# Altium schematic symbol library Actel IGLOO nano.SchLib: 240 symbols (part 3 of 14)
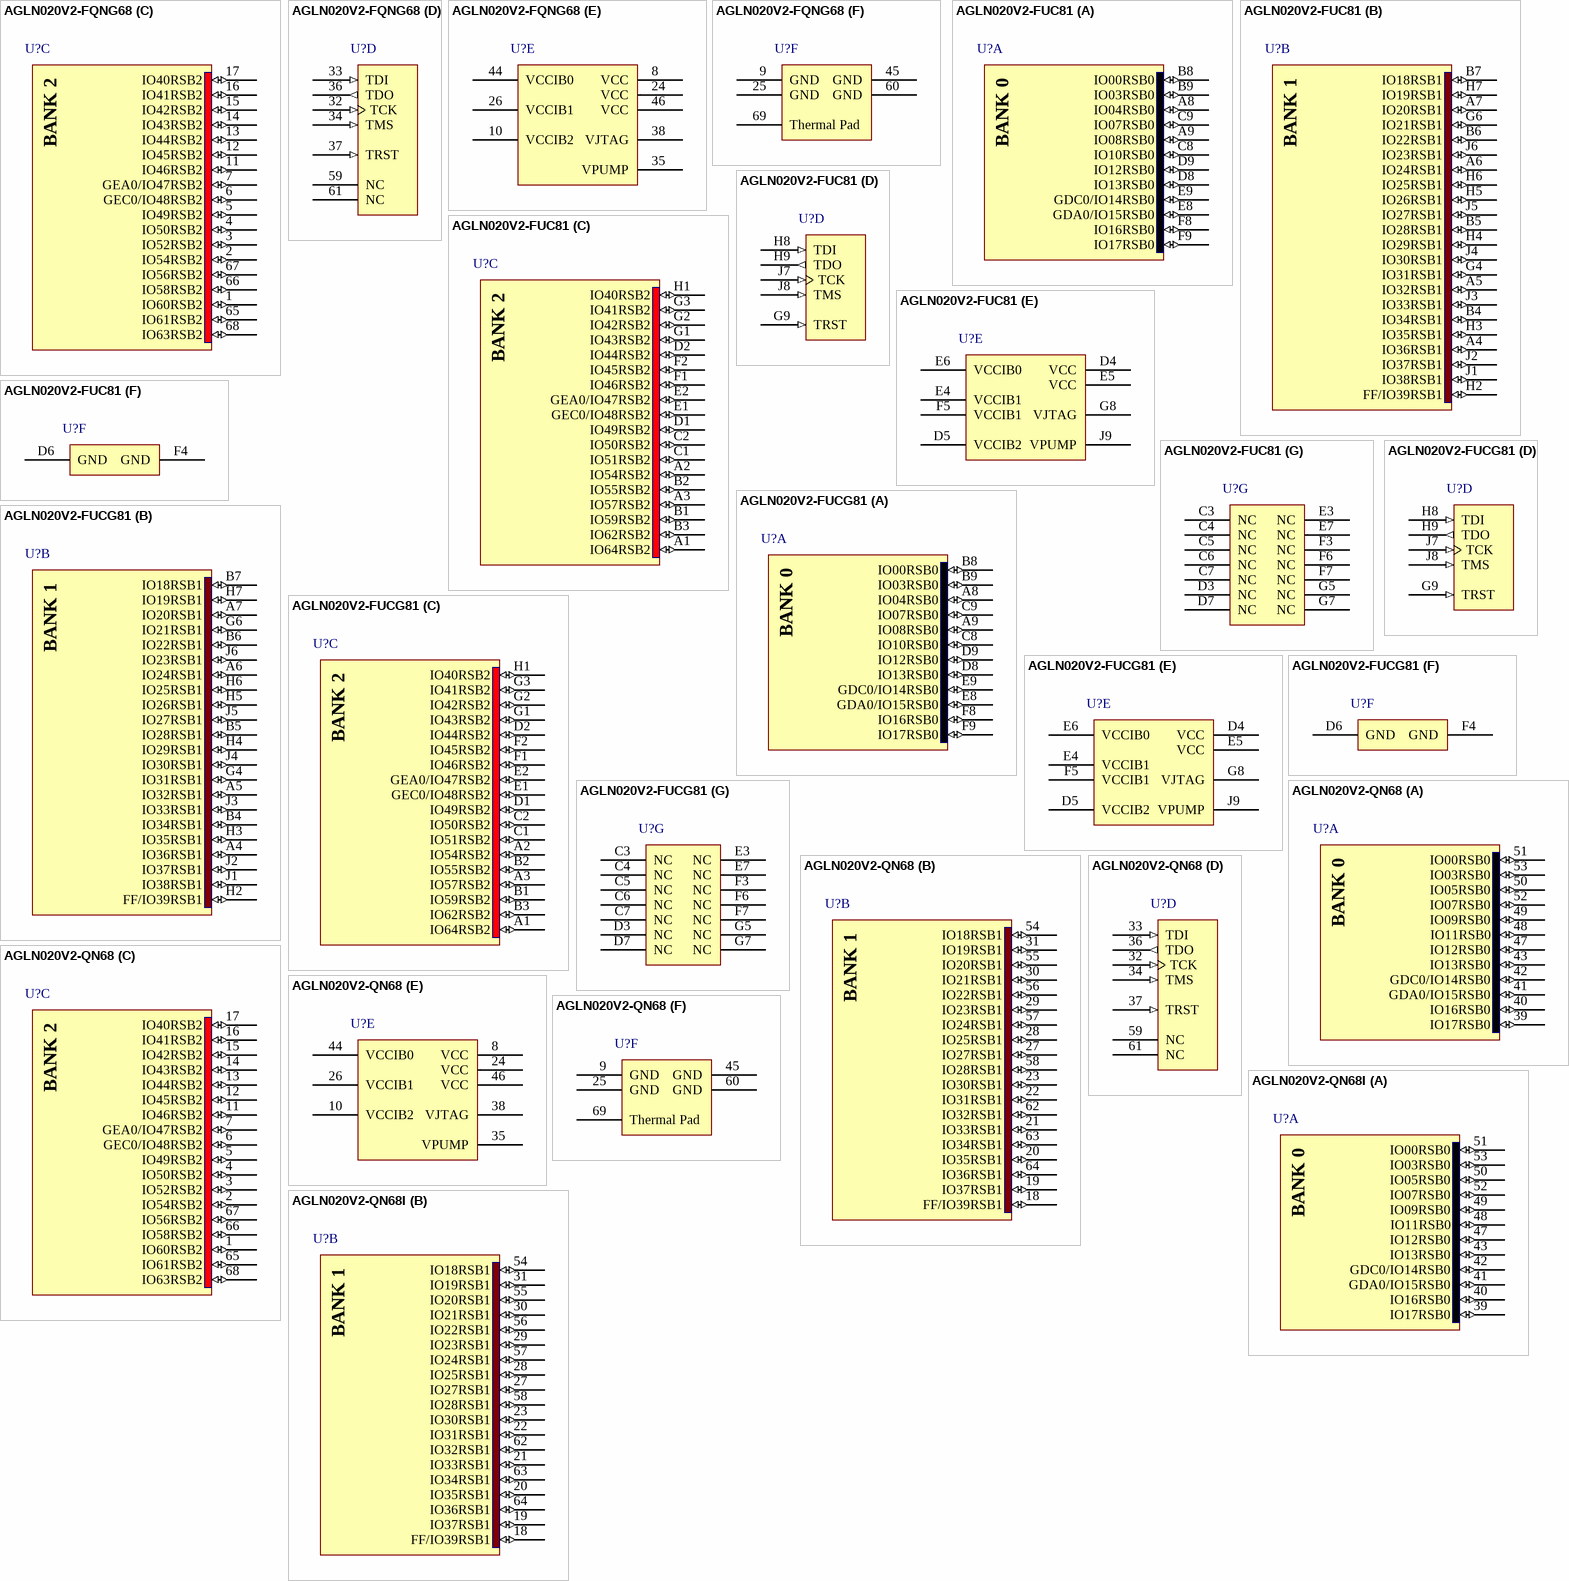
[diagram p65: symbols AGLN020V2-FQNG68 to AGLN020V2-QN68I]

## AGLN020V2-FUC81
designator U?
IGLOO nano Low-Power Flash 1.2 to 1.5V FPGA with Flash*Freeze, 52 User IOs, 20K System Gates, 1Kbit Flash ROM, 81-Pin Micro CSP, F Speed Grade, Commercial Grade; ComponentAvailability: F speed grade removed in ver0.7, Apr-2009 datasheet.; Published: 29-May-2009; DatasheetVersion: v0.6, Feb-2009; PackageVersion: ver11.2, Nov-2009; PackageReference: uC81; Publisher: Altium Limited; PackageDescription: 81-Ball Chip Scale Ball Grid Array 0.4 mm Pitch (uC81); Code_JEDEC: MO-195-AB; ComponentLink1Description: IGLOO nano Datasheet; ComponentLink1URL: http://www.actel.com/documents/IGLOO_nano_DS.pdf; ComponentLink2Description: Package Mechanical Drawings; ComponentLink2URL: http://www.actel.com/documents/PckgMechDrwngs.pdf; ComponentLink3Description: IGLOO nano Documents; ComponentLink3URL: http://www.actel.com/products/igloonano/docs.aspx; ComponentLink4Description: Actel.com Home; ComponentLink4URL: http://www.actel.com/
footprint UC81 (BGA, 81-Leads, Body 4x4mm, Pitch 0.4mm)
signal-integrity model AGLN020-UC81 (IGLOO nano)
part A pins: A8 IO04RSB0 (io), A9 IO08RSB0 (io), B8 IO00RSB0 (io), B9 IO03RSB0 (io), C8 IO10RSB0 (io), C9 IO07RSB0 (io), D8 IO13RSB0 (io), D9 IO12RSB0 (io), E8 GDA0/IO15RSB0 (io), E9 GDC0/IO14RSB0 (io), F8 IO16RSB0 (io), F9 IO17RSB0 (io)
part B pins: A4 IO36RSB1 (io), A5 IO32RSB1 (io), A6 IO24RSB1 (io), A7 IO20RSB1 (io), B4 IO34RSB1 (io), B5 IO28RSB1 (io), B6 IO22RSB1 (io), B7 IO18RSB1 (io), G4 IO31RSB1 (io), G6 IO21RSB1 (io), H2 FF/IO39RSB1 (io), H3 IO35RSB1 (io), H4 IO29RSB1 (io), H5 IO26RSB1 (io), H6 IO25RSB1 (io), H7 IO19RSB1 (io), J1 IO38RSB1 (io), J2 IO37RSB1 (io), J3 IO33RSB1 (io), J4 IO30RSB1 (io), J5 IO27RSB1 (io), J6 IO23RSB1 (io)
part C pins: A1 IO64RSB2 (io), A2 IO54RSB2 (io), A3 IO57RSB2 (io), B1 IO59RSB2 (io), B2 IO55RSB2 (io), B3 IO62RSB2 (io), C1 IO51RSB2 (io), C2 IO50RSB2 (io), D1 IO49RSB2 (io), D2 IO44RSB2 (io), E1 GEC0/IO48RSB2 (io), E2 GEA0/IO47RSB2 (io), F1 IO46RSB2 (io), F2 IO45RSB2 (io), G1 IO43RSB2 (io), G2 IO42RSB2 (io), G3 IO41RSB2 (io), H1 IO40RSB2 (io)
part D pins: G9 TRST (in), H8 TDI (in), H9 TDO (out), J7 TCK (in), J8 TMS (in)
part E pins: D4 VCC (power), D5 VCCIB2 (power), E4 VCCIB1 (power), E5 VCC (power), E6 VCCIB0 (power), F5 VCCIB1 (power), G8 VJTAG (power), J9 VPUMP (power)
part F pins: D6 GND (power), F4 GND (power)
part G pins: C3 NC, C4 NC, C5 NC, C6 NC, C7 NC, D3 NC, D7 NC, E3 NC, E7 NC, F3 NC, F6 NC, F7 NC, G5 NC, G7 NC
part A text: BANK 0
part B text: BANK 1
part C text: BANK 2

## AGLN020V2-FUCG81
designator U?
IGLOO nano Low-Power Flash 1.2 to 1.5V FPGA with Flash*Freeze, 52 User IOs, 20K System Gates, 1Kbit Flash ROM, 81-Pin Micro CSP, F Speed Grade, Commercial Grade, Pb-Free; ComponentAvailability: F speed grade removed in ver0.7, Apr-2009 datasheet.; Published: 29-May-2009; DatasheetVersion: v0.6, Feb-2009; PackageVersion: ver11.2, Nov-2009; PackageReference: uC81; Publisher: Altium Limited; PackageDescription: 81-Ball Chip Scale Ball Grid Array 0.4 mm Pitch (uC81); Code_JEDEC: MO-195-AB; ComponentLink1Description: IGLOO nano Datasheet; ComponentLink1URL: http://www.actel.com/documents/IGLOO_nano_DS.pdf; ComponentLink2Description: Package Mechanical Drawings; ComponentLink2URL: http://www.actel.com/documents/PckgMechDrwngs.pdf; ComponentLink3Description: IGLOO nano Documents; ComponentLink3URL: http://www.actel.com/products/igloonano/docs.aspx; ComponentLink4Description: Actel.com Home; ComponentLink4URL: http://www.actel.com/
footprint UC81 (BGA, 81-Leads, Body 4x4mm, Pitch 0.4mm)
signal-integrity model AGLN020-UC81 (IGLOO nano)
part A pins: A8 IO04RSB0 (io), A9 IO08RSB0 (io), B8 IO00RSB0 (io), B9 IO03RSB0 (io), C8 IO10RSB0 (io), C9 IO07RSB0 (io), D8 IO13RSB0 (io), D9 IO12RSB0 (io), E8 GDA0/IO15RSB0 (io), E9 GDC0/IO14RSB0 (io), F8 IO16RSB0 (io), F9 IO17RSB0 (io)
part B pins: A4 IO36RSB1 (io), A5 IO32RSB1 (io), A6 IO24RSB1 (io), A7 IO20RSB1 (io), B4 IO34RSB1 (io), B5 IO28RSB1 (io), B6 IO22RSB1 (io), B7 IO18RSB1 (io), G4 IO31RSB1 (io), G6 IO21RSB1 (io), H2 FF/IO39RSB1 (io), H3 IO35RSB1 (io), H4 IO29RSB1 (io), H5 IO26RSB1 (io), H6 IO25RSB1 (io), H7 IO19RSB1 (io), J1 IO38RSB1 (io), J2 IO37RSB1 (io), J3 IO33RSB1 (io), J4 IO30RSB1 (io), J5 IO27RSB1 (io), J6 IO23RSB1 (io)
part C pins: A1 IO64RSB2 (io), A2 IO54RSB2 (io), A3 IO57RSB2 (io), B1 IO59RSB2 (io), B2 IO55RSB2 (io), B3 IO62RSB2 (io), C1 IO51RSB2 (io), C2 IO50RSB2 (io), D1 IO49RSB2 (io), D2 IO44RSB2 (io), E1 GEC0/IO48RSB2 (io), E2 GEA0/IO47RSB2 (io), F1 IO46RSB2 (io), F2 IO45RSB2 (io), G1 IO43RSB2 (io), G2 IO42RSB2 (io), G3 IO41RSB2 (io), H1 IO40RSB2 (io)
part D pins: G9 TRST (in), H8 TDI (in), H9 TDO (out), J7 TCK (in), J8 TMS (in)
part E pins: D4 VCC (power), D5 VCCIB2 (power), E4 VCCIB1 (power), E5 VCC (power), E6 VCCIB0 (power), F5 VCCIB1 (power), G8 VJTAG (power), J9 VPUMP (power)
part F pins: D6 GND (power), F4 GND (power)
part G pins: C3 NC, C4 NC, C5 NC, C6 NC, C7 NC, D3 NC, D7 NC, E3 NC, E7 NC, F3 NC, F6 NC, F7 NC, G5 NC, G7 NC
part A text: BANK 0
part B text: BANK 1
part C text: BANK 2

## AGLN020V2-QN68
designator U?
IGLOO nano Low-Power Flash 1.2 to 1.5V FPGA with Flash*Freeze, 49 User IOs, 20K System Gates, 1Kbit Flash ROM, 68-Pin QFN, Commercial Grade; Published: 29-May-2009; LatestRevisionDate: 26-Feb-2010; LatestRevisionNote: Updated to datasheet version 0.8 Jan-2010.; DatasheetVersion: v0.8, Jan-2010; PackageVersion: ver11.2, Nov-2009; PackageReference: QN68; Publisher: Altium Limited; PackageDescription: 68-Pin Quad Flat No-Lead 0.4 mm Pitch (QN68); Code_JEDEC: MO-220-VLLE-1; ComponentLink1Description: IGLOO nano Datasheet; ComponentLink1URL: http://www.actel.com/documents/IGLOO_nano_DS.pdf; ComponentLink2Description: Package Mechanical Drawings; ComponentLink2URL: http://www.actel.com/documents/PckgMechDrwngs.pdf; ComponentLink3Description: IGLOO nano Documents; ComponentLink3URL: http://www.actel.com/products/igloonano/docs.aspx; ComponentLink4Description: Actel.com Home; ComponentLink4URL: http://www.actel.com/
footprint QN68_N (QFN, 68-Leads, Body 8x8 mm, Pitch 0.4mm, IPC Medium Density)
footprint QN68_L (QFN, 68-Leads, Body 8x8 mm, Pitch 0.4mm, IPC High Density)
footprint QN68_M (QFN, 68-Leads, Body 8x8 mm, Pitch 0.4mm, IPC Low Density)
signal-integrity model AGLN020-QN68 (IGLOO nano)
part A pins: 39 IO17RSB0 (io), 40 IO16RSB0 (io), 41 GDA0/IO15RSB0 (io), 42 GDC0/IO14RSB0 (io), 43 IO13RSB0 (io), 47 IO12RSB0 (io), 48 IO11RSB0 (io), 49 IO09RSB0 (io), 50 IO05RSB0 (io), 51 IO00RSB0 (io), 52 IO07RSB0 (io), 53 IO03RSB0 (io)
part B pins: 18 FF/IO39RSB1 (io), 19 IO37RSB1 (io), 20 IO35RSB1 (io), 21 IO33RSB1 (io), 22 IO31RSB1 (io), 23 IO30RSB1 (io), 27 IO27RSB1 (io), 28 IO25RSB1 (io), 29 IO23RSB1 (io), 30 IO21RSB1 (io), 31 IO19RSB1 (io), 54 IO18RSB1 (io), 55 IO20RSB1 (io), 56 IO22RSB1 (io), 57 IO24RSB1 (io), 58 IO28RSB1 (io), 62 IO32RSB1 (io), 63 IO34RSB1 (io), 64 IO36RSB1 (io)
part C pins: 1 IO60RSB2 (io), 2 IO54RSB2 (io), 3 IO52RSB2 (io), 4 IO50RSB2 (io), 5 IO49RSB2 (io), 6 GEC0/IO48RSB2 (io), 7 GEA0/IO47RSB2 (io), 11 IO46RSB2 (io), 12 IO45RSB2 (io), 13 IO44RSB2 (io), 14 IO43RSB2 (io), 15 IO42RSB2 (io), 16 IO41RSB2 (io), 17 IO40RSB2 (io), 65 IO61RSB2 (io), 66 IO58RSB2 (io), 67 IO56RSB2 (io), 68 IO63RSB2 (io)
part D pins: 32 TCK (in), 33 TDI (in), 34 TMS (in), 36 TDO (out), 37 TRST (in), 59 NC, 61 NC
part E pins: 8 VCC (power), 10 VCCIB2 (power), 24 VCC (power), 26 VCCIB1 (power), 35 VPUMP (power), 38 VJTAG (power), 44 VCCIB0 (power), 46 VCC (power)
part F pins: 9 GND (power), 25 GND (power), 45 GND (power), 60 GND (power), 69 Thermal Pad
part A text: BANK 0
part B text: BANK 1
part C text: BANK 2

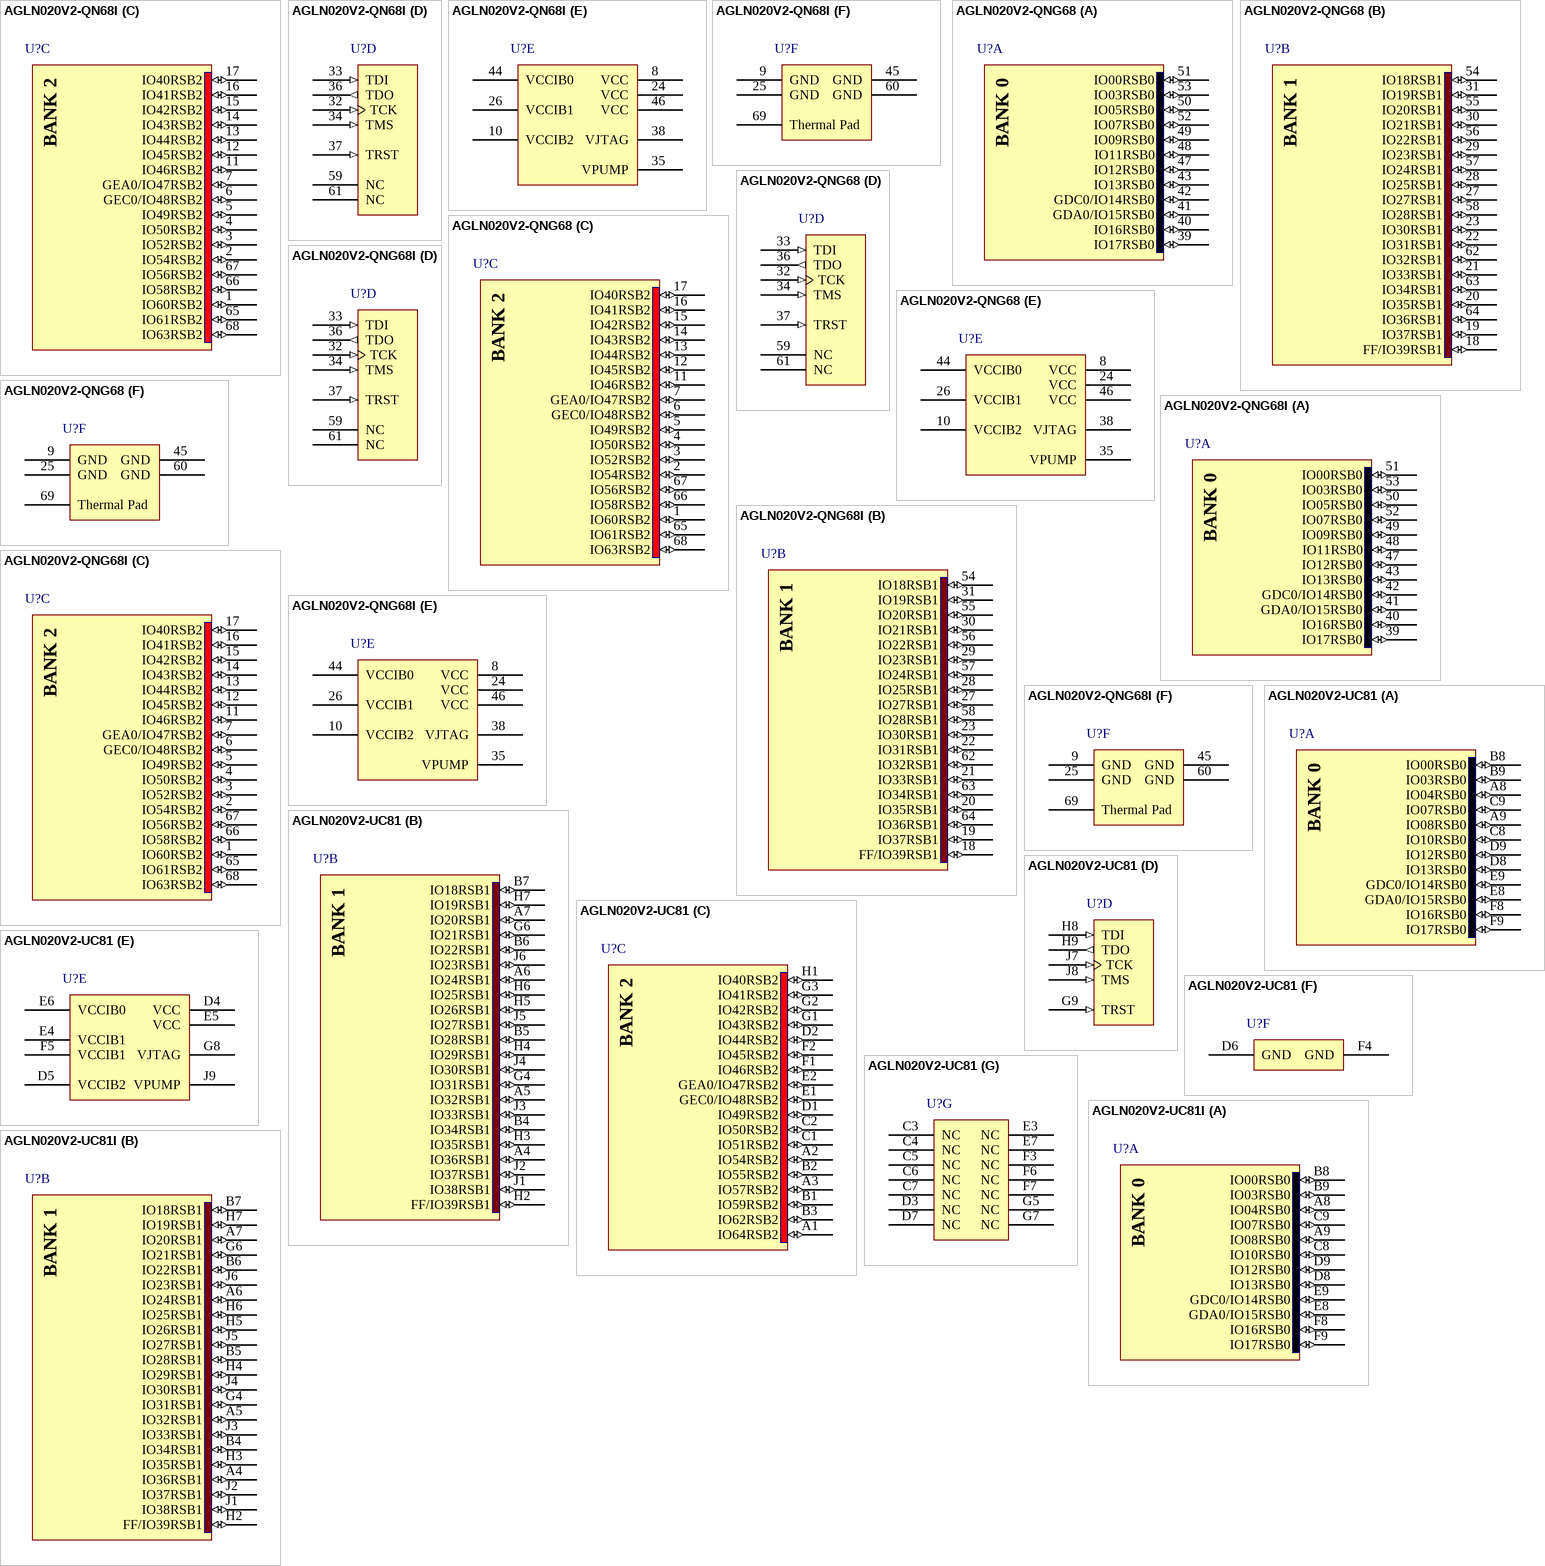
[diagram p9: symbols AGLN020V2-QN68I to AGLN020V2-UC81I]

## AGLN020V2-QN68I
designator U?
IGLOO nano Low-Power Flash 1.2 to 1.5V FPGA with Flash*Freeze, 49 User IOs, 20K System Gates, 1Kbit Flash ROM, 68-Pin QFN, Industrial Grade; Published: 29-May-2009; LatestRevisionDate: 26-Feb-2010; LatestRevisionNote: Updated to datasheet version 0.8 Jan-2010.; DatasheetVersion: v0.8, Jan-2010; PackageVersion: ver11.2, Nov-2009; PackageReference: QN68; Publisher: Altium Limited; PackageDescription: 68-Pin Quad Flat No-Lead 0.4 mm Pitch (QN68); Code_JEDEC: MO-220-VLLE-1; ComponentLink1Description: IGLOO nano Datasheet; ComponentLink1URL: http://www.actel.com/documents/IGLOO_nano_DS.pdf; ComponentLink2Description: Package Mechanical Drawings; ComponentLink2URL: http://www.actel.com/documents/PckgMechDrwngs.pdf; ComponentLink3Description: IGLOO nano Documents; ComponentLink3URL: http://www.actel.com/products/igloonano/docs.aspx; ComponentLink4Description: Actel.com Home; ComponentLink4URL: http://www.actel.com/
footprint QN68_N (QFN, 68-Leads, Body 8x8 mm, Pitch 0.4mm, IPC Medium Density)
footprint QN68_L (QFN, 68-Leads, Body 8x8 mm, Pitch 0.4mm, IPC High Density)
footprint QN68_M (QFN, 68-Leads, Body 8x8 mm, Pitch 0.4mm, IPC Low Density)
signal-integrity model AGLN020-QN68 (IGLOO nano)
part A pins: 39 IO17RSB0 (io), 40 IO16RSB0 (io), 41 GDA0/IO15RSB0 (io), 42 GDC0/IO14RSB0 (io), 43 IO13RSB0 (io), 47 IO12RSB0 (io), 48 IO11RSB0 (io), 49 IO09RSB0 (io), 50 IO05RSB0 (io), 51 IO00RSB0 (io), 52 IO07RSB0 (io), 53 IO03RSB0 (io)
part B pins: 18 FF/IO39RSB1 (io), 19 IO37RSB1 (io), 20 IO35RSB1 (io), 21 IO33RSB1 (io), 22 IO31RSB1 (io), 23 IO30RSB1 (io), 27 IO27RSB1 (io), 28 IO25RSB1 (io), 29 IO23RSB1 (io), 30 IO21RSB1 (io), 31 IO19RSB1 (io), 54 IO18RSB1 (io), 55 IO20RSB1 (io), 56 IO22RSB1 (io), 57 IO24RSB1 (io), 58 IO28RSB1 (io), 62 IO32RSB1 (io), 63 IO34RSB1 (io), 64 IO36RSB1 (io)
part C pins: 1 IO60RSB2 (io), 2 IO54RSB2 (io), 3 IO52RSB2 (io), 4 IO50RSB2 (io), 5 IO49RSB2 (io), 6 GEC0/IO48RSB2 (io), 7 GEA0/IO47RSB2 (io), 11 IO46RSB2 (io), 12 IO45RSB2 (io), 13 IO44RSB2 (io), 14 IO43RSB2 (io), 15 IO42RSB2 (io), 16 IO41RSB2 (io), 17 IO40RSB2 (io), 65 IO61RSB2 (io), 66 IO58RSB2 (io), 67 IO56RSB2 (io), 68 IO63RSB2 (io)
part D pins: 32 TCK (in), 33 TDI (in), 34 TMS (in), 36 TDO (out), 37 TRST (in), 59 NC, 61 NC
part E pins: 8 VCC (power), 10 VCCIB2 (power), 24 VCC (power), 26 VCCIB1 (power), 35 VPUMP (power), 38 VJTAG (power), 44 VCCIB0 (power), 46 VCC (power)
part F pins: 9 GND (power), 25 GND (power), 45 GND (power), 60 GND (power), 69 Thermal Pad
part A text: BANK 0
part B text: BANK 1
part C text: BANK 2

## AGLN020V2-QNG68
designator U?
IGLOO nano Low-Power Flash 1.2 to 1.5V FPGA with Flash*Freeze, 49 User IOs, 20K System Gates, 1Kbit Flash ROM, 68-Pin QFN, Commercial Grade, Pb-Free; Published: 29-May-2009; LatestRevisionDate: 26-Feb-2010; LatestRevisionNote: Updated to datasheet version 0.8 Jan-2010.; DatasheetVersion: v0.8, Jan-2010; PackageVersion: ver11.2, Nov-2009; PackageReference: QN68; Publisher: Altium Limited; PackageDescription: 68-Pin Quad Flat No-Lead 0.4 mm Pitch (QN68); Code_JEDEC: MO-220-VLLE-1; ComponentLink1Description: IGLOO nano Datasheet; ComponentLink1URL: http://www.actel.com/documents/IGLOO_nano_DS.pdf; ComponentLink2Description: Package Mechanical Drawings; ComponentLink2URL: http://www.actel.com/documents/PckgMechDrwngs.pdf; ComponentLink3Description: IGLOO nano Documents; ComponentLink3URL: http://www.actel.com/products/igloonano/docs.aspx; ComponentLink4Description: Actel.com Home; ComponentLink4URL: http://www.actel.com/
footprint QN68_N (QFN, 68-Leads, Body 8x8 mm, Pitch 0.4mm, IPC Medium Density)
footprint QN68_L (QFN, 68-Leads, Body 8x8 mm, Pitch 0.4mm, IPC High Density)
footprint QN68_M (QFN, 68-Leads, Body 8x8 mm, Pitch 0.4mm, IPC Low Density)
signal-integrity model AGLN020-QN68 (IGLOO nano)
part A pins: 39 IO17RSB0 (io), 40 IO16RSB0 (io), 41 GDA0/IO15RSB0 (io), 42 GDC0/IO14RSB0 (io), 43 IO13RSB0 (io), 47 IO12RSB0 (io), 48 IO11RSB0 (io), 49 IO09RSB0 (io), 50 IO05RSB0 (io), 51 IO00RSB0 (io), 52 IO07RSB0 (io), 53 IO03RSB0 (io)
part B pins: 18 FF/IO39RSB1 (io), 19 IO37RSB1 (io), 20 IO35RSB1 (io), 21 IO33RSB1 (io), 22 IO31RSB1 (io), 23 IO30RSB1 (io), 27 IO27RSB1 (io), 28 IO25RSB1 (io), 29 IO23RSB1 (io), 30 IO21RSB1 (io), 31 IO19RSB1 (io), 54 IO18RSB1 (io), 55 IO20RSB1 (io), 56 IO22RSB1 (io), 57 IO24RSB1 (io), 58 IO28RSB1 (io), 62 IO32RSB1 (io), 63 IO34RSB1 (io), 64 IO36RSB1 (io)
part C pins: 1 IO60RSB2 (io), 2 IO54RSB2 (io), 3 IO52RSB2 (io), 4 IO50RSB2 (io), 5 IO49RSB2 (io), 6 GEC0/IO48RSB2 (io), 7 GEA0/IO47RSB2 (io), 11 IO46RSB2 (io), 12 IO45RSB2 (io), 13 IO44RSB2 (io), 14 IO43RSB2 (io), 15 IO42RSB2 (io), 16 IO41RSB2 (io), 17 IO40RSB2 (io), 65 IO61RSB2 (io), 66 IO58RSB2 (io), 67 IO56RSB2 (io), 68 IO63RSB2 (io)
part D pins: 32 TCK (in), 33 TDI (in), 34 TMS (in), 36 TDO (out), 37 TRST (in), 59 NC, 61 NC
part E pins: 8 VCC (power), 10 VCCIB2 (power), 24 VCC (power), 26 VCCIB1 (power), 35 VPUMP (power), 38 VJTAG (power), 44 VCCIB0 (power), 46 VCC (power)
part F pins: 9 GND (power), 25 GND (power), 45 GND (power), 60 GND (power), 69 Thermal Pad
part A text: BANK 0
part B text: BANK 1
part C text: BANK 2

## AGLN020V2-QNG68I
designator U?
IGLOO nano Low-Power Flash 1.2 to 1.5V FPGA with Flash*Freeze, 49 User IOs, 20K System Gates, 1Kbit Flash ROM, 68-Pin QFN, Industrial Grade, Pb-Free; Published: 29-May-2009; LatestRevisionDate: 26-Feb-2010; LatestRevisionNote: Updated to datasheet version 0.8 Jan-2010.; DatasheetVersion: v0.8, Jan-2010; PackageVersion: ver11.2, Nov-2009; PackageReference: QN68; Publisher: Altium Limited; PackageDescription: 68-Pin Quad Flat No-Lead 0.4 mm Pitch (QN68); Code_JEDEC: MO-220-VLLE-1; ComponentLink1Description: IGLOO nano Datasheet; ComponentLink1URL: http://www.actel.com/documents/IGLOO_nano_DS.pdf; ComponentLink2Description: Package Mechanical Drawings; ComponentLink2URL: http://www.actel.com/documents/PckgMechDrwngs.pdf; ComponentLink3Description: IGLOO nano Documents; ComponentLink3URL: http://www.actel.com/products/igloonano/docs.aspx; ComponentLink4Description: Actel.com Home; ComponentLink4URL: http://www.actel.com/
footprint QN68_N (QFN, 68-Leads, Body 8x8 mm, Pitch 0.4mm, IPC Medium Density)
footprint QN68_L (QFN, 68-Leads, Body 8x8 mm, Pitch 0.4mm, IPC High Density)
footprint QN68_M (QFN, 68-Leads, Body 8x8 mm, Pitch 0.4mm, IPC Low Density)
signal-integrity model AGLN020-QN68 (IGLOO nano)
part A pins: 39 IO17RSB0 (io), 40 IO16RSB0 (io), 41 GDA0/IO15RSB0 (io), 42 GDC0/IO14RSB0 (io), 43 IO13RSB0 (io), 47 IO12RSB0 (io), 48 IO11RSB0 (io), 49 IO09RSB0 (io), 50 IO05RSB0 (io), 51 IO00RSB0 (io), 52 IO07RSB0 (io), 53 IO03RSB0 (io)
part B pins: 18 FF/IO39RSB1 (io), 19 IO37RSB1 (io), 20 IO35RSB1 (io), 21 IO33RSB1 (io), 22 IO31RSB1 (io), 23 IO30RSB1 (io), 27 IO27RSB1 (io), 28 IO25RSB1 (io), 29 IO23RSB1 (io), 30 IO21RSB1 (io), 31 IO19RSB1 (io), 54 IO18RSB1 (io), 55 IO20RSB1 (io), 56 IO22RSB1 (io), 57 IO24RSB1 (io), 58 IO28RSB1 (io), 62 IO32RSB1 (io), 63 IO34RSB1 (io), 64 IO36RSB1 (io)
part C pins: 1 IO60RSB2 (io), 2 IO54RSB2 (io), 3 IO52RSB2 (io), 4 IO50RSB2 (io), 5 IO49RSB2 (io), 6 GEC0/IO48RSB2 (io), 7 GEA0/IO47RSB2 (io), 11 IO46RSB2 (io), 12 IO45RSB2 (io), 13 IO44RSB2 (io), 14 IO43RSB2 (io), 15 IO42RSB2 (io), 16 IO41RSB2 (io), 17 IO40RSB2 (io), 65 IO61RSB2 (io), 66 IO58RSB2 (io), 67 IO56RSB2 (io), 68 IO63RSB2 (io)
part D pins: 32 TCK (in), 33 TDI (in), 34 TMS (in), 36 TDO (out), 37 TRST (in), 59 NC, 61 NC
part E pins: 8 VCC (power), 10 VCCIB2 (power), 24 VCC (power), 26 VCCIB1 (power), 35 VPUMP (power), 38 VJTAG (power), 44 VCCIB0 (power), 46 VCC (power)
part F pins: 9 GND (power), 25 GND (power), 45 GND (power), 60 GND (power), 69 Thermal Pad
part A text: BANK 0
part B text: BANK 1
part C text: BANK 2

## AGLN020V2-UC81
designator U?
IGLOO nano Low-Power Flash 1.2 to 1.5V FPGA with Flash*Freeze, 52 User IOs, 20K System Gates, 1Kbit Flash ROM, 81-Pin Micro CSP, Commercial Grade; Published: 29-May-2009; LatestRevisionDate: 26-Feb-2010; LatestRevisionNote: Updated to datasheet version 0.8 Jan-2010.; DatasheetVersion: v0.8, Jan-2010; PackageVersion: ver11.2, Nov-2009; PackageReference: uC81; Publisher: Altium Limited; PackageDescription: 81-Ball Chip Scale Ball Grid Array 0.4 mm Pitch (uC81); Code_JEDEC: MO-195-AB; ComponentLink1Description: IGLOO nano Datasheet; ComponentLink1URL: http://www.actel.com/documents/IGLOO_nano_DS.pdf; ComponentLink2Description: Package Mechanical Drawings; ComponentLink2URL: http://www.actel.com/documents/PckgMechDrwngs.pdf; ComponentLink3Description: IGLOO nano Documents; ComponentLink3URL: http://www.actel.com/products/igloonano/docs.aspx; ComponentLink4Description: Actel.com Home; ComponentLink4URL: http://www.actel.com/
footprint UC81 (BGA, 81-Leads, Body 4x4mm, Pitch 0.4mm)
signal-integrity model AGLN020-UC81 (IGLOO nano)
part A pins: A8 IO04RSB0 (io), A9 IO08RSB0 (io), B8 IO00RSB0 (io), B9 IO03RSB0 (io), C8 IO10RSB0 (io), C9 IO07RSB0 (io), D8 IO13RSB0 (io), D9 IO12RSB0 (io), E8 GDA0/IO15RSB0 (io), E9 GDC0/IO14RSB0 (io), F8 IO16RSB0 (io), F9 IO17RSB0 (io)
part B pins: A4 IO36RSB1 (io), A5 IO32RSB1 (io), A6 IO24RSB1 (io), A7 IO20RSB1 (io), B4 IO34RSB1 (io), B5 IO28RSB1 (io), B6 IO22RSB1 (io), B7 IO18RSB1 (io), G4 IO31RSB1 (io), G6 IO21RSB1 (io), H2 FF/IO39RSB1 (io), H3 IO35RSB1 (io), H4 IO29RSB1 (io), H5 IO26RSB1 (io), H6 IO25RSB1 (io), H7 IO19RSB1 (io), J1 IO38RSB1 (io), J2 IO37RSB1 (io), J3 IO33RSB1 (io), J4 IO30RSB1 (io), J5 IO27RSB1 (io), J6 IO23RSB1 (io)
part C pins: A1 IO64RSB2 (io), A2 IO54RSB2 (io), A3 IO57RSB2 (io), B1 IO59RSB2 (io), B2 IO55RSB2 (io), B3 IO62RSB2 (io), C1 IO51RSB2 (io), C2 IO50RSB2 (io), D1 IO49RSB2 (io), D2 IO44RSB2 (io), E1 GEC0/IO48RSB2 (io), E2 GEA0/IO47RSB2 (io), F1 IO46RSB2 (io), F2 IO45RSB2 (io), G1 IO43RSB2 (io), G2 IO42RSB2 (io), G3 IO41RSB2 (io), H1 IO40RSB2 (io)
part D pins: G9 TRST (in), H8 TDI (in), H9 TDO (out), J7 TCK (in), J8 TMS (in)
part E pins: D4 VCC (power), D5 VCCIB2 (power), E4 VCCIB1 (power), E5 VCC (power), E6 VCCIB0 (power), F5 VCCIB1 (power), G8 VJTAG (power), J9 VPUMP (power)
part F pins: D6 GND (power), F4 GND (power)
part G pins: C3 NC, C4 NC, C5 NC, C6 NC, C7 NC, D3 NC, D7 NC, E3 NC, E7 NC, F3 NC, F6 NC, F7 NC, G5 NC, G7 NC
part A text: BANK 0
part B text: BANK 1
part C text: BANK 2

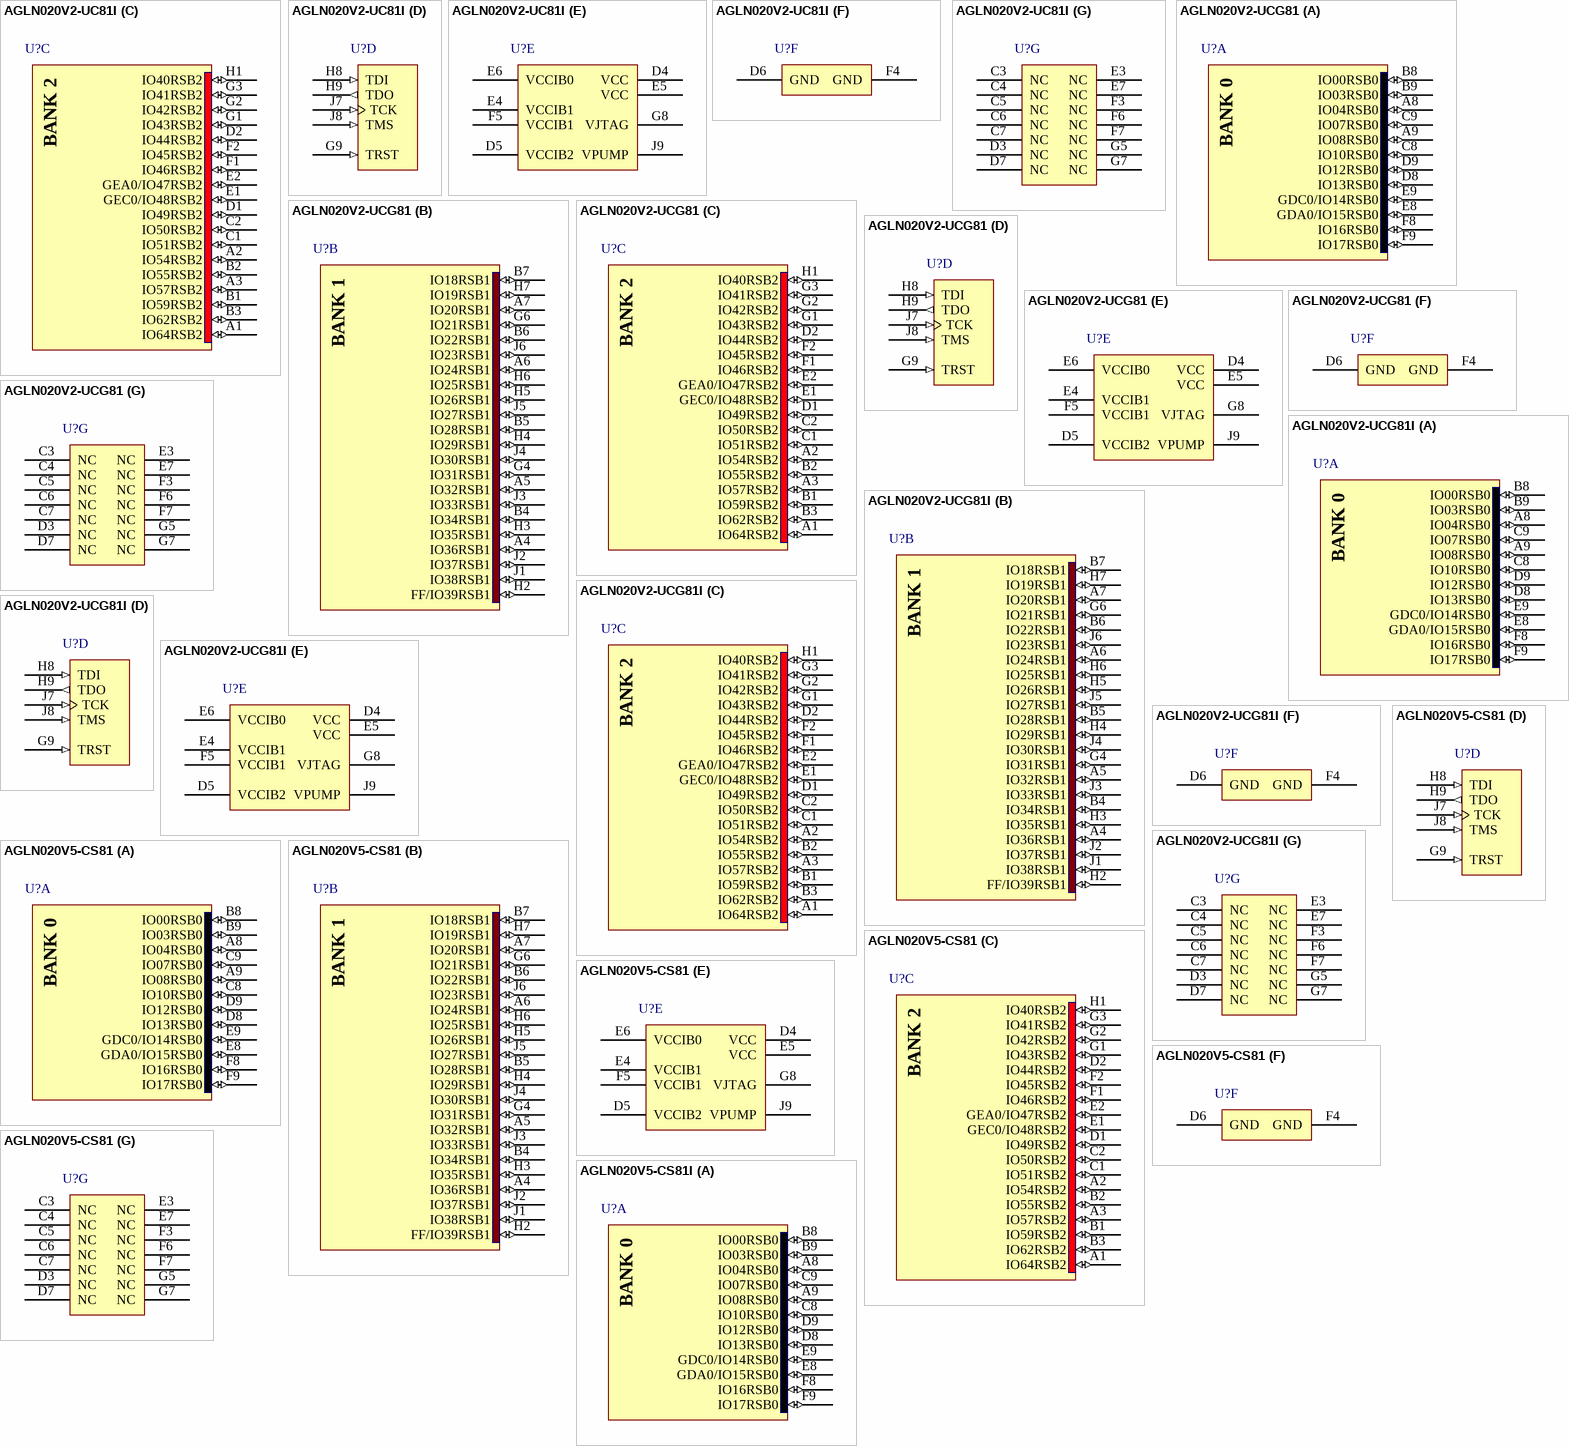
[diagram p10: symbols AGLN020V2-UC81I to AGLN020V5-CS81I]

## AGLN020V2-UC81I
designator U?
IGLOO nano Low-Power Flash 1.2 to 1.5V FPGA with Flash*Freeze, 52 User IOs, 20K System Gates, 1Kbit Flash ROM, 81-Pin Micro CSP, Industrial Grade; Published: 29-May-2009; LatestRevisionDate: 26-Feb-2010; LatestRevisionNote: Updated to datasheet version 0.8 Jan-2010.; DatasheetVersion: v0.8, Jan-2010; PackageVersion: ver11.2, Nov-2009; PackageReference: uC81; Publisher: Altium Limited; PackageDescription: 81-Ball Chip Scale Ball Grid Array 0.4 mm Pitch (uC81); Code_JEDEC: MO-195-AB; ComponentLink1Description: IGLOO nano Datasheet; ComponentLink1URL: http://www.actel.com/documents/IGLOO_nano_DS.pdf; ComponentLink2Description: Package Mechanical Drawings; ComponentLink2URL: http://www.actel.com/documents/PckgMechDrwngs.pdf; ComponentLink3Description: IGLOO nano Documents; ComponentLink3URL: http://www.actel.com/products/igloonano/docs.aspx; ComponentLink4Description: Actel.com Home; ComponentLink4URL: http://www.actel.com/
footprint UC81 (BGA, 81-Leads, Body 4x4mm, Pitch 0.4mm)
signal-integrity model AGLN020-UC81 (IGLOO nano)
part A pins: A8 IO04RSB0 (io), A9 IO08RSB0 (io), B8 IO00RSB0 (io), B9 IO03RSB0 (io), C8 IO10RSB0 (io), C9 IO07RSB0 (io), D8 IO13RSB0 (io), D9 IO12RSB0 (io), E8 GDA0/IO15RSB0 (io), E9 GDC0/IO14RSB0 (io), F8 IO16RSB0 (io), F9 IO17RSB0 (io)
part B pins: A4 IO36RSB1 (io), A5 IO32RSB1 (io), A6 IO24RSB1 (io), A7 IO20RSB1 (io), B4 IO34RSB1 (io), B5 IO28RSB1 (io), B6 IO22RSB1 (io), B7 IO18RSB1 (io), G4 IO31RSB1 (io), G6 IO21RSB1 (io), H2 FF/IO39RSB1 (io), H3 IO35RSB1 (io), H4 IO29RSB1 (io), H5 IO26RSB1 (io), H6 IO25RSB1 (io), H7 IO19RSB1 (io), J1 IO38RSB1 (io), J2 IO37RSB1 (io), J3 IO33RSB1 (io), J4 IO30RSB1 (io), J5 IO27RSB1 (io), J6 IO23RSB1 (io)
part C pins: A1 IO64RSB2 (io), A2 IO54RSB2 (io), A3 IO57RSB2 (io), B1 IO59RSB2 (io), B2 IO55RSB2 (io), B3 IO62RSB2 (io), C1 IO51RSB2 (io), C2 IO50RSB2 (io), D1 IO49RSB2 (io), D2 IO44RSB2 (io), E1 GEC0/IO48RSB2 (io), E2 GEA0/IO47RSB2 (io), F1 IO46RSB2 (io), F2 IO45RSB2 (io), G1 IO43RSB2 (io), G2 IO42RSB2 (io), G3 IO41RSB2 (io), H1 IO40RSB2 (io)
part D pins: G9 TRST (in), H8 TDI (in), H9 TDO (out), J7 TCK (in), J8 TMS (in)
part E pins: D4 VCC (power), D5 VCCIB2 (power), E4 VCCIB1 (power), E5 VCC (power), E6 VCCIB0 (power), F5 VCCIB1 (power), G8 VJTAG (power), J9 VPUMP (power)
part F pins: D6 GND (power), F4 GND (power)
part G pins: C3 NC, C4 NC, C5 NC, C6 NC, C7 NC, D3 NC, D7 NC, E3 NC, E7 NC, F3 NC, F6 NC, F7 NC, G5 NC, G7 NC
part A text: BANK 0
part B text: BANK 1
part C text: BANK 2

## AGLN020V2-UCG81
designator U?
IGLOO nano Low-Power Flash 1.2 to 1.5V FPGA with Flash*Freeze, 52 User IOs, 20K System Gates, 1Kbit Flash ROM, 81-Pin Micro CSP, Commercial Grade, Pb-Free; Published: 29-May-2009; LatestRevisionDate: 26-Feb-2010; LatestRevisionNote: Updated to datasheet version 0.8 Jan-2010.; DatasheetVersion: v0.8, Jan-2010; PackageVersion: ver11.2, Nov-2009; PackageReference: uC81; Publisher: Altium Limited; PackageDescription: 81-Ball Chip Scale Ball Grid Array 0.4 mm Pitch (uC81); Code_JEDEC: MO-195-AB; ComponentLink1Description: IGLOO nano Datasheet; ComponentLink1URL: http://www.actel.com/documents/IGLOO_nano_DS.pdf; ComponentLink2Description: Package Mechanical Drawings; ComponentLink2URL: http://www.actel.com/documents/PckgMechDrwngs.pdf; ComponentLink3Description: IGLOO nano Documents; ComponentLink3URL: http://www.actel.com/products/igloonano/docs.aspx; ComponentLink4Description: Actel.com Home; ComponentLink4URL: http://www.actel.com/
footprint UC81 (BGA, 81-Leads, Body 4x4mm, Pitch 0.4mm)
signal-integrity model AGLN020-UC81 (IGLOO nano)
part A pins: A8 IO04RSB0 (io), A9 IO08RSB0 (io), B8 IO00RSB0 (io), B9 IO03RSB0 (io), C8 IO10RSB0 (io), C9 IO07RSB0 (io), D8 IO13RSB0 (io), D9 IO12RSB0 (io), E8 GDA0/IO15RSB0 (io), E9 GDC0/IO14RSB0 (io), F8 IO16RSB0 (io), F9 IO17RSB0 (io)
part B pins: A4 IO36RSB1 (io), A5 IO32RSB1 (io), A6 IO24RSB1 (io), A7 IO20RSB1 (io), B4 IO34RSB1 (io), B5 IO28RSB1 (io), B6 IO22RSB1 (io), B7 IO18RSB1 (io), G4 IO31RSB1 (io), G6 IO21RSB1 (io), H2 FF/IO39RSB1 (io), H3 IO35RSB1 (io), H4 IO29RSB1 (io), H5 IO26RSB1 (io), H6 IO25RSB1 (io), H7 IO19RSB1 (io), J1 IO38RSB1 (io), J2 IO37RSB1 (io), J3 IO33RSB1 (io), J4 IO30RSB1 (io), J5 IO27RSB1 (io), J6 IO23RSB1 (io)
part C pins: A1 IO64RSB2 (io), A2 IO54RSB2 (io), A3 IO57RSB2 (io), B1 IO59RSB2 (io), B2 IO55RSB2 (io), B3 IO62RSB2 (io), C1 IO51RSB2 (io), C2 IO50RSB2 (io), D1 IO49RSB2 (io), D2 IO44RSB2 (io), E1 GEC0/IO48RSB2 (io), E2 GEA0/IO47RSB2 (io), F1 IO46RSB2 (io), F2 IO45RSB2 (io), G1 IO43RSB2 (io), G2 IO42RSB2 (io), G3 IO41RSB2 (io), H1 IO40RSB2 (io)
part D pins: G9 TRST (in), H8 TDI (in), H9 TDO (out), J7 TCK (in), J8 TMS (in)
part E pins: D4 VCC (power), D5 VCCIB2 (power), E4 VCCIB1 (power), E5 VCC (power), E6 VCCIB0 (power), F5 VCCIB1 (power), G8 VJTAG (power), J9 VPUMP (power)
part F pins: D6 GND (power), F4 GND (power)
part G pins: C3 NC, C4 NC, C5 NC, C6 NC, C7 NC, D3 NC, D7 NC, E3 NC, E7 NC, F3 NC, F6 NC, F7 NC, G5 NC, G7 NC
part A text: BANK 0
part B text: BANK 1
part C text: BANK 2

## AGLN020V2-UCG81I
designator U?
IGLOO nano Low-Power Flash 1.2 to 1.5V FPGA with Flash*Freeze, 52 User IOs, 20K System Gates, 1Kbit Flash ROM, 81-Pin Micro CSP, Industrial Grade, Pb-Free; Published: 29-May-2009; LatestRevisionDate: 26-Feb-2010; LatestRevisionNote: Updated to datasheet version 0.8 Jan-2010.; DatasheetVersion: v0.8, Jan-2010; PackageVersion: ver11.2, Nov-2009; PackageReference: uC81; Publisher: Altium Limited; PackageDescription: 81-Ball Chip Scale Ball Grid Array 0.4 mm Pitch (uC81); Code_JEDEC: MO-195-AB; ComponentLink1Description: IGLOO nano Datasheet; ComponentLink1URL: http://www.actel.com/documents/IGLOO_nano_DS.pdf; ComponentLink2Description: Package Mechanical Drawings; ComponentLink2URL: http://www.actel.com/documents/PckgMechDrwngs.pdf; ComponentLink3Description: IGLOO nano Documents; ComponentLink3URL: http://www.actel.com/products/igloonano/docs.aspx; ComponentLink4Description: Actel.com Home; ComponentLink4URL: http://www.actel.com/
footprint UC81 (BGA, 81-Leads, Body 4x4mm, Pitch 0.4mm)
signal-integrity model AGLN020-UC81 (IGLOO nano)
part A pins: A8 IO04RSB0 (io), A9 IO08RSB0 (io), B8 IO00RSB0 (io), B9 IO03RSB0 (io), C8 IO10RSB0 (io), C9 IO07RSB0 (io), D8 IO13RSB0 (io), D9 IO12RSB0 (io), E8 GDA0/IO15RSB0 (io), E9 GDC0/IO14RSB0 (io), F8 IO16RSB0 (io), F9 IO17RSB0 (io)
part B pins: A4 IO36RSB1 (io), A5 IO32RSB1 (io), A6 IO24RSB1 (io), A7 IO20RSB1 (io), B4 IO34RSB1 (io), B5 IO28RSB1 (io), B6 IO22RSB1 (io), B7 IO18RSB1 (io), G4 IO31RSB1 (io), G6 IO21RSB1 (io), H2 FF/IO39RSB1 (io), H3 IO35RSB1 (io), H4 IO29RSB1 (io), H5 IO26RSB1 (io), H6 IO25RSB1 (io), H7 IO19RSB1 (io), J1 IO38RSB1 (io), J2 IO37RSB1 (io), J3 IO33RSB1 (io), J4 IO30RSB1 (io), J5 IO27RSB1 (io), J6 IO23RSB1 (io)
part C pins: A1 IO64RSB2 (io), A2 IO54RSB2 (io), A3 IO57RSB2 (io), B1 IO59RSB2 (io), B2 IO55RSB2 (io), B3 IO62RSB2 (io), C1 IO51RSB2 (io), C2 IO50RSB2 (io), D1 IO49RSB2 (io), D2 IO44RSB2 (io), E1 GEC0/IO48RSB2 (io), E2 GEA0/IO47RSB2 (io), F1 IO46RSB2 (io), F2 IO45RSB2 (io), G1 IO43RSB2 (io), G2 IO42RSB2 (io), G3 IO41RSB2 (io), H1 IO40RSB2 (io)
part D pins: G9 TRST (in), H8 TDI (in), H9 TDO (out), J7 TCK (in), J8 TMS (in)
part E pins: D4 VCC (power), D5 VCCIB2 (power), E4 VCCIB1 (power), E5 VCC (power), E6 VCCIB0 (power), F5 VCCIB1 (power), G8 VJTAG (power), J9 VPUMP (power)
part F pins: D6 GND (power), F4 GND (power)
part G pins: C3 NC, C4 NC, C5 NC, C6 NC, C7 NC, D3 NC, D7 NC, E3 NC, E7 NC, F3 NC, F6 NC, F7 NC, G5 NC, G7 NC
part A text: BANK 0
part B text: BANK 1
part C text: BANK 2

## AGLN020V5-CS81
designator U?
IGLOO nano Low-Power Flash 1.5V FPGA with Flash*Freeze, 52 User IOs, 20K System Gates, 1Kbit Flash ROM, 81-Pin CSP, Commercial Grade; Published: 29-May-2009; LatestRevisionDate: 26-Feb-2010; LatestRevisionNote: Updated to datasheet version 0.8 Jan-2010.; DatasheetVersion: v0.8, Jan-2010; PackageVersion: ver11.2, Nov-2009; PackageReference: CS81; Publisher: Altium Limited; PackageDescription: 81-Ball Chip Scale Ball Grid Array 0.5 mm Pitch (CS81); Code_JEDEC: MO-195-AB; ComponentLink1Description: IGLOO nano Datasheet; ComponentLink1URL: http://www.actel.com/documents/IGLOO_nano_DS.pdf; ComponentLink2Description: Package Mechanical Drawings; ComponentLink2URL: http://www.actel.com/documents/PckgMechDrwngs.pdf; ComponentLink3Description: IGLOO nano Documents; ComponentLink3URL: http://www.actel.com/products/igloonano/docs.aspx; ComponentLink4Description: Actel.com Home; ComponentLink4URL: http://www.actel.com/
footprint CS81 (BGA, 81-Leads, Body 5x5mm, Pitch 0.5mm)
signal-integrity model AGLN020-CS81 (IGLOO nano)
part A pins: A8 IO04RSB0 (io), A9 IO08RSB0 (io), B8 IO00RSB0 (io), B9 IO03RSB0 (io), C8 IO10RSB0 (io), C9 IO07RSB0 (io), D8 IO13RSB0 (io), D9 IO12RSB0 (io), E8 GDA0/IO15RSB0 (io), E9 GDC0/IO14RSB0 (io), F8 IO16RSB0 (io), F9 IO17RSB0 (io)
part B pins: A4 IO36RSB1 (io), A5 IO32RSB1 (io), A6 IO24RSB1 (io), A7 IO20RSB1 (io), B4 IO34RSB1 (io), B5 IO28RSB1 (io), B6 IO22RSB1 (io), B7 IO18RSB1 (io), G4 IO31RSB1 (io), G6 IO21RSB1 (io), H2 FF/IO39RSB1 (io), H3 IO35RSB1 (io), H4 IO29RSB1 (io), H5 IO26RSB1 (io), H6 IO25RSB1 (io), H7 IO19RSB1 (io), J1 IO38RSB1 (io), J2 IO37RSB1 (io), J3 IO33RSB1 (io), J4 IO30RSB1 (io), J5 IO27RSB1 (io), J6 IO23RSB1 (io)
part C pins: A1 IO64RSB2 (io), A2 IO54RSB2 (io), A3 IO57RSB2 (io), B1 IO59RSB2 (io), B2 IO55RSB2 (io), B3 IO62RSB2 (io), C1 IO51RSB2 (io), C2 IO50RSB2 (io), D1 IO49RSB2 (io), D2 IO44RSB2 (io), E1 GEC0/IO48RSB2 (io), E2 GEA0/IO47RSB2 (io), F1 IO46RSB2 (io), F2 IO45RSB2 (io), G1 IO43RSB2 (io), G2 IO42RSB2 (io), G3 IO41RSB2 (io), H1 IO40RSB2 (io)
part D pins: G9 TRST (in), H8 TDI (in), H9 TDO (out), J7 TCK (in), J8 TMS (in)
part E pins: D4 VCC (power), D5 VCCIB2 (power), E4 VCCIB1 (power), E5 VCC (power), E6 VCCIB0 (power), F5 VCCIB1 (power), G8 VJTAG (power), J9 VPUMP (power)
part F pins: D6 GND (power), F4 GND (power)
part G pins: C3 NC, C4 NC, C5 NC, C6 NC, C7 NC, D3 NC, D7 NC, E3 NC, E7 NC, F3 NC, F6 NC, F7 NC, G5 NC, G7 NC
part A text: BANK 0
part B text: BANK 1
part C text: BANK 2

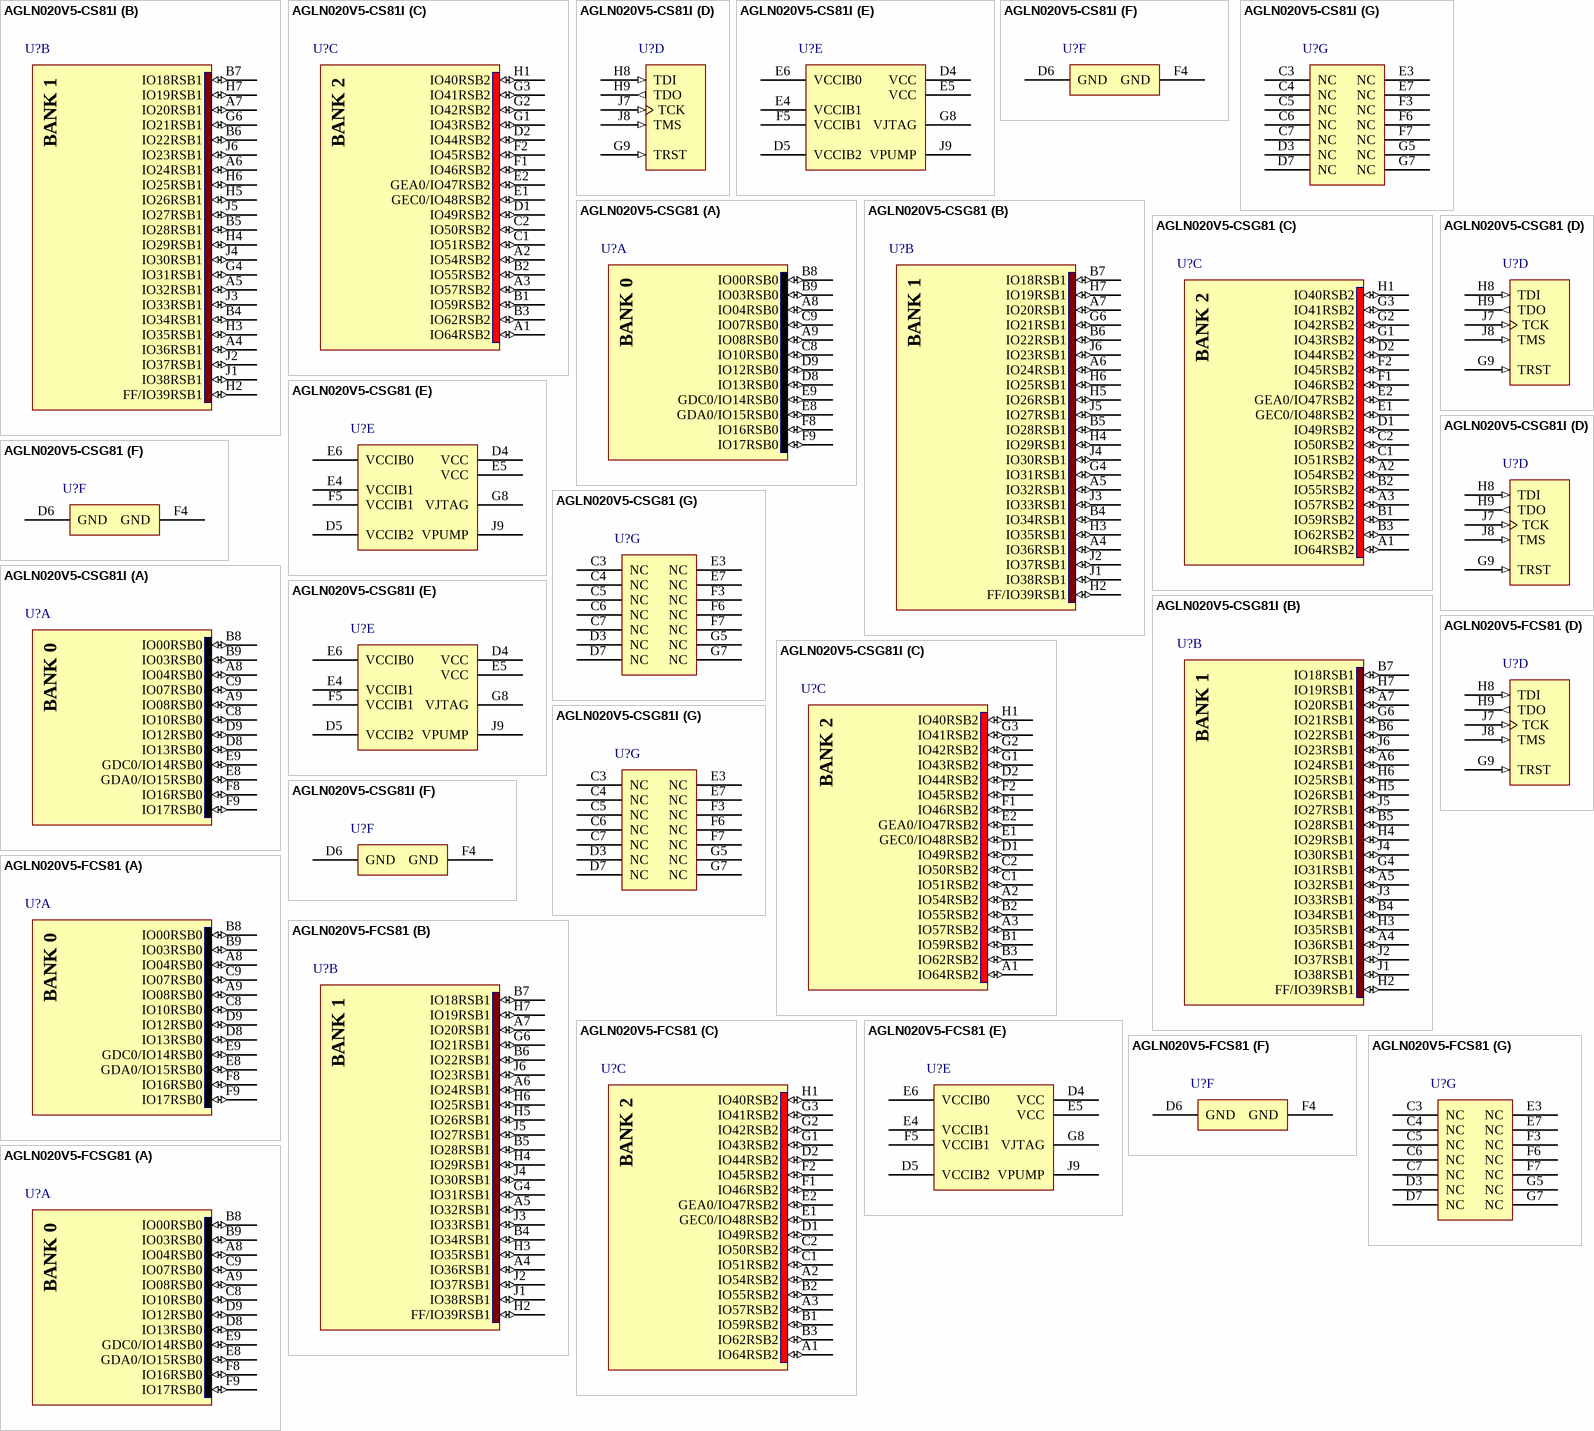
[diagram p11: symbols AGLN020V5-CS81I to AGLN020V5-FCSG81]

## AGLN020V5-CS81I
designator U?
IGLOO nano Low-Power Flash 1.5V FPGA with Flash*Freeze, 52 User IOs, 20K System Gates, 1Kbit Flash ROM, 81-Pin CSP, Industrial Grade; Published: 29-May-2009; LatestRevisionDate: 26-Feb-2010; LatestRevisionNote: Updated to datasheet version 0.8 Jan-2010.; DatasheetVersion: v0.8, Jan-2010; PackageVersion: ver11.2, Nov-2009; PackageReference: CS81; Publisher: Altium Limited; PackageDescription: 81-Ball Chip Scale Ball Grid Array 0.5 mm Pitch (CS81); Code_JEDEC: MO-195-AB; ComponentLink1Description: IGLOO nano Datasheet; ComponentLink1URL: http://www.actel.com/documents/IGLOO_nano_DS.pdf; ComponentLink2Description: Package Mechanical Drawings; ComponentLink2URL: http://www.actel.com/documents/PckgMechDrwngs.pdf; ComponentLink3Description: IGLOO nano Documents; ComponentLink3URL: http://www.actel.com/products/igloonano/docs.aspx; ComponentLink4Description: Actel.com Home; ComponentLink4URL: http://www.actel.com/
footprint CS81 (BGA, 81-Leads, Body 5x5mm, Pitch 0.5mm)
signal-integrity model AGLN020-CS81 (IGLOO nano)
part A pins: A8 IO04RSB0 (io), A9 IO08RSB0 (io), B8 IO00RSB0 (io), B9 IO03RSB0 (io), C8 IO10RSB0 (io), C9 IO07RSB0 (io), D8 IO13RSB0 (io), D9 IO12RSB0 (io), E8 GDA0/IO15RSB0 (io), E9 GDC0/IO14RSB0 (io), F8 IO16RSB0 (io), F9 IO17RSB0 (io)
part B pins: A4 IO36RSB1 (io), A5 IO32RSB1 (io), A6 IO24RSB1 (io), A7 IO20RSB1 (io), B4 IO34RSB1 (io), B5 IO28RSB1 (io), B6 IO22RSB1 (io), B7 IO18RSB1 (io), G4 IO31RSB1 (io), G6 IO21RSB1 (io), H2 FF/IO39RSB1 (io), H3 IO35RSB1 (io), H4 IO29RSB1 (io), H5 IO26RSB1 (io), H6 IO25RSB1 (io), H7 IO19RSB1 (io), J1 IO38RSB1 (io), J2 IO37RSB1 (io), J3 IO33RSB1 (io), J4 IO30RSB1 (io), J5 IO27RSB1 (io), J6 IO23RSB1 (io)
part C pins: A1 IO64RSB2 (io), A2 IO54RSB2 (io), A3 IO57RSB2 (io), B1 IO59RSB2 (io), B2 IO55RSB2 (io), B3 IO62RSB2 (io), C1 IO51RSB2 (io), C2 IO50RSB2 (io), D1 IO49RSB2 (io), D2 IO44RSB2 (io), E1 GEC0/IO48RSB2 (io), E2 GEA0/IO47RSB2 (io), F1 IO46RSB2 (io), F2 IO45RSB2 (io), G1 IO43RSB2 (io), G2 IO42RSB2 (io), G3 IO41RSB2 (io), H1 IO40RSB2 (io)
part D pins: G9 TRST (in), H8 TDI (in), H9 TDO (out), J7 TCK (in), J8 TMS (in)
part E pins: D4 VCC (power), D5 VCCIB2 (power), E4 VCCIB1 (power), E5 VCC (power), E6 VCCIB0 (power), F5 VCCIB1 (power), G8 VJTAG (power), J9 VPUMP (power)
part F pins: D6 GND (power), F4 GND (power)
part G pins: C3 NC, C4 NC, C5 NC, C6 NC, C7 NC, D3 NC, D7 NC, E3 NC, E7 NC, F3 NC, F6 NC, F7 NC, G5 NC, G7 NC
part A text: BANK 0
part B text: BANK 1
part C text: BANK 2

## AGLN020V5-CSG81
designator U?
IGLOO nano Low-Power Flash 1.5V FPGA with Flash*Freeze, 52 User IOs, 20K System Gates, 1Kbit Flash ROM, 81-Pin CSP, Commercial Grade, Pb-Free; Published: 29-May-2009; LatestRevisionDate: 26-Feb-2010; LatestRevisionNote: Updated to datasheet version 0.8 Jan-2010.; DatasheetVersion: v0.8, Jan-2010; PackageVersion: ver11.2, Nov-2009; PackageReference: CS81; Publisher: Altium Limited; PackageDescription: 81-Ball Chip Scale Ball Grid Array 0.5 mm Pitch (CS81); Code_JEDEC: MO-195-AB; ComponentLink1Description: IGLOO nano Datasheet; ComponentLink1URL: http://www.actel.com/documents/IGLOO_nano_DS.pdf; ComponentLink2Description: Package Mechanical Drawings; ComponentLink2URL: http://www.actel.com/documents/PckgMechDrwngs.pdf; ComponentLink3Description: IGLOO nano Documents; ComponentLink3URL: http://www.actel.com/products/igloonano/docs.aspx; ComponentLink4Description: Actel.com Home; ComponentLink4URL: http://www.actel.com/
footprint CS81 (BGA, 81-Leads, Body 5x5mm, Pitch 0.5mm)
signal-integrity model AGLN020-CS81 (IGLOO nano)
part A pins: A8 IO04RSB0 (io), A9 IO08RSB0 (io), B8 IO00RSB0 (io), B9 IO03RSB0 (io), C8 IO10RSB0 (io), C9 IO07RSB0 (io), D8 IO13RSB0 (io), D9 IO12RSB0 (io), E8 GDA0/IO15RSB0 (io), E9 GDC0/IO14RSB0 (io), F8 IO16RSB0 (io), F9 IO17RSB0 (io)
part B pins: A4 IO36RSB1 (io), A5 IO32RSB1 (io), A6 IO24RSB1 (io), A7 IO20RSB1 (io), B4 IO34RSB1 (io), B5 IO28RSB1 (io), B6 IO22RSB1 (io), B7 IO18RSB1 (io), G4 IO31RSB1 (io), G6 IO21RSB1 (io), H2 FF/IO39RSB1 (io), H3 IO35RSB1 (io), H4 IO29RSB1 (io), H5 IO26RSB1 (io), H6 IO25RSB1 (io), H7 IO19RSB1 (io), J1 IO38RSB1 (io), J2 IO37RSB1 (io), J3 IO33RSB1 (io), J4 IO30RSB1 (io), J5 IO27RSB1 (io), J6 IO23RSB1 (io)
part C pins: A1 IO64RSB2 (io), A2 IO54RSB2 (io), A3 IO57RSB2 (io), B1 IO59RSB2 (io), B2 IO55RSB2 (io), B3 IO62RSB2 (io), C1 IO51RSB2 (io), C2 IO50RSB2 (io), D1 IO49RSB2 (io), D2 IO44RSB2 (io), E1 GEC0/IO48RSB2 (io), E2 GEA0/IO47RSB2 (io), F1 IO46RSB2 (io), F2 IO45RSB2 (io), G1 IO43RSB2 (io), G2 IO42RSB2 (io), G3 IO41RSB2 (io), H1 IO40RSB2 (io)
part D pins: G9 TRST (in), H8 TDI (in), H9 TDO (out), J7 TCK (in), J8 TMS (in)
part E pins: D4 VCC (power), D5 VCCIB2 (power), E4 VCCIB1 (power), E5 VCC (power), E6 VCCIB0 (power), F5 VCCIB1 (power), G8 VJTAG (power), J9 VPUMP (power)
part F pins: D6 GND (power), F4 GND (power)
part G pins: C3 NC, C4 NC, C5 NC, C6 NC, C7 NC, D3 NC, D7 NC, E3 NC, E7 NC, F3 NC, F6 NC, F7 NC, G5 NC, G7 NC
part A text: BANK 0
part B text: BANK 1
part C text: BANK 2

## AGLN020V5-CSG81I
designator U?
IGLOO nano Low-Power Flash 1.5V FPGA with Flash*Freeze, 52 User IOs, 20K System Gates, 1Kbit Flash ROM, 81-Pin CSP, Industrial Grade, Pb-Free; Published: 29-May-2009; LatestRevisionDate: 26-Feb-2010; LatestRevisionNote: Updated to datasheet version 0.8 Jan-2010.; DatasheetVersion: v0.8, Jan-2010; PackageVersion: ver11.2, Nov-2009; PackageReference: CS81; Publisher: Altium Limited; PackageDescription: 81-Ball Chip Scale Ball Grid Array 0.5 mm Pitch (CS81); Code_JEDEC: MO-195-AB; ComponentLink1Description: IGLOO nano Datasheet; ComponentLink1URL: http://www.actel.com/documents/IGLOO_nano_DS.pdf; ComponentLink2Description: Package Mechanical Drawings; ComponentLink2URL: http://www.actel.com/documents/PckgMechDrwngs.pdf; ComponentLink3Description: IGLOO nano Documents; ComponentLink3URL: http://www.actel.com/products/igloonano/docs.aspx; ComponentLink4Description: Actel.com Home; ComponentLink4URL: http://www.actel.com/
footprint CS81 (BGA, 81-Leads, Body 5x5mm, Pitch 0.5mm)
signal-integrity model AGLN020-CS81 (IGLOO nano)
part A pins: A8 IO04RSB0 (io), A9 IO08RSB0 (io), B8 IO00RSB0 (io), B9 IO03RSB0 (io), C8 IO10RSB0 (io), C9 IO07RSB0 (io), D8 IO13RSB0 (io), D9 IO12RSB0 (io), E8 GDA0/IO15RSB0 (io), E9 GDC0/IO14RSB0 (io), F8 IO16RSB0 (io), F9 IO17RSB0 (io)
part B pins: A4 IO36RSB1 (io), A5 IO32RSB1 (io), A6 IO24RSB1 (io), A7 IO20RSB1 (io), B4 IO34RSB1 (io), B5 IO28RSB1 (io), B6 IO22RSB1 (io), B7 IO18RSB1 (io), G4 IO31RSB1 (io), G6 IO21RSB1 (io), H2 FF/IO39RSB1 (io), H3 IO35RSB1 (io), H4 IO29RSB1 (io), H5 IO26RSB1 (io), H6 IO25RSB1 (io), H7 IO19RSB1 (io), J1 IO38RSB1 (io), J2 IO37RSB1 (io), J3 IO33RSB1 (io), J4 IO30RSB1 (io), J5 IO27RSB1 (io), J6 IO23RSB1 (io)
part C pins: A1 IO64RSB2 (io), A2 IO54RSB2 (io), A3 IO57RSB2 (io), B1 IO59RSB2 (io), B2 IO55RSB2 (io), B3 IO62RSB2 (io), C1 IO51RSB2 (io), C2 IO50RSB2 (io), D1 IO49RSB2 (io), D2 IO44RSB2 (io), E1 GEC0/IO48RSB2 (io), E2 GEA0/IO47RSB2 (io), F1 IO46RSB2 (io), F2 IO45RSB2 (io), G1 IO43RSB2 (io), G2 IO42RSB2 (io), G3 IO41RSB2 (io), H1 IO40RSB2 (io)
part D pins: G9 TRST (in), H8 TDI (in), H9 TDO (out), J7 TCK (in), J8 TMS (in)
part E pins: D4 VCC (power), D5 VCCIB2 (power), E4 VCCIB1 (power), E5 VCC (power), E6 VCCIB0 (power), F5 VCCIB1 (power), G8 VJTAG (power), J9 VPUMP (power)
part F pins: D6 GND (power), F4 GND (power)
part G pins: C3 NC, C4 NC, C5 NC, C6 NC, C7 NC, D3 NC, D7 NC, E3 NC, E7 NC, F3 NC, F6 NC, F7 NC, G5 NC, G7 NC
part A text: BANK 0
part B text: BANK 1
part C text: BANK 2

## AGLN020V5-FCS81
designator U?
IGLOO nano Low-Power Flash 1.5V FPGA with Flash*Freeze, 52 User IOs, 20K System Gates, 1Kbit Flash ROM, 81-Pin CSP, F Speed Grade, Commercial Grade; ComponentAvailability: F speed grade removed in ver0.7, Apr-2009 datasheet.; Published: 29-May-2009; DatasheetVersion: v0.6, Feb-2009; PackageVersion: ver11.2, Nov-2009; PackageReference: CS81; Publisher: Altium Limited; PackageDescription: 81-Ball Chip Scale Ball Grid Array 0.5 mm Pitch (CS81); Code_JEDEC: MO-195-AB; ComponentLink1Description: IGLOO nano Datasheet; ComponentLink1URL: http://www.actel.com/documents/IGLOO_nano_DS.pdf; ComponentLink2Description: Package Mechanical Drawings; ComponentLink2URL: http://www.actel.com/documents/PckgMechDrwngs.pdf; ComponentLink3Description: IGLOO nano Documents; ComponentLink3URL: http://www.actel.com/products/igloonano/docs.aspx; ComponentLink4Description: Actel.com Home; ComponentLink4URL: http://www.actel.com/
footprint CS81 (BGA, 81-Leads, Body 5x5mm, Pitch 0.5mm)
signal-integrity model AGLN020-CS81 (IGLOO nano)
part A pins: A8 IO04RSB0 (io), A9 IO08RSB0 (io), B8 IO00RSB0 (io), B9 IO03RSB0 (io), C8 IO10RSB0 (io), C9 IO07RSB0 (io), D8 IO13RSB0 (io), D9 IO12RSB0 (io), E8 GDA0/IO15RSB0 (io), E9 GDC0/IO14RSB0 (io), F8 IO16RSB0 (io), F9 IO17RSB0 (io)
part B pins: A4 IO36RSB1 (io), A5 IO32RSB1 (io), A6 IO24RSB1 (io), A7 IO20RSB1 (io), B4 IO34RSB1 (io), B5 IO28RSB1 (io), B6 IO22RSB1 (io), B7 IO18RSB1 (io), G4 IO31RSB1 (io), G6 IO21RSB1 (io), H2 FF/IO39RSB1 (io), H3 IO35RSB1 (io), H4 IO29RSB1 (io), H5 IO26RSB1 (io), H6 IO25RSB1 (io), H7 IO19RSB1 (io), J1 IO38RSB1 (io), J2 IO37RSB1 (io), J3 IO33RSB1 (io), J4 IO30RSB1 (io), J5 IO27RSB1 (io), J6 IO23RSB1 (io)
part C pins: A1 IO64RSB2 (io), A2 IO54RSB2 (io), A3 IO57RSB2 (io), B1 IO59RSB2 (io), B2 IO55RSB2 (io), B3 IO62RSB2 (io), C1 IO51RSB2 (io), C2 IO50RSB2 (io), D1 IO49RSB2 (io), D2 IO44RSB2 (io), E1 GEC0/IO48RSB2 (io), E2 GEA0/IO47RSB2 (io), F1 IO46RSB2 (io), F2 IO45RSB2 (io), G1 IO43RSB2 (io), G2 IO42RSB2 (io), G3 IO41RSB2 (io), H1 IO40RSB2 (io)
part D pins: G9 TRST (in), H8 TDI (in), H9 TDO (out), J7 TCK (in), J8 TMS (in)
part E pins: D4 VCC (power), D5 VCCIB2 (power), E4 VCCIB1 (power), E5 VCC (power), E6 VCCIB0 (power), F5 VCCIB1 (power), G8 VJTAG (power), J9 VPUMP (power)
part F pins: D6 GND (power), F4 GND (power)
part G pins: C3 NC, C4 NC, C5 NC, C6 NC, C7 NC, D3 NC, D7 NC, E3 NC, E7 NC, F3 NC, F6 NC, F7 NC, G5 NC, G7 NC
part A text: BANK 0
part B text: BANK 1
part C text: BANK 2

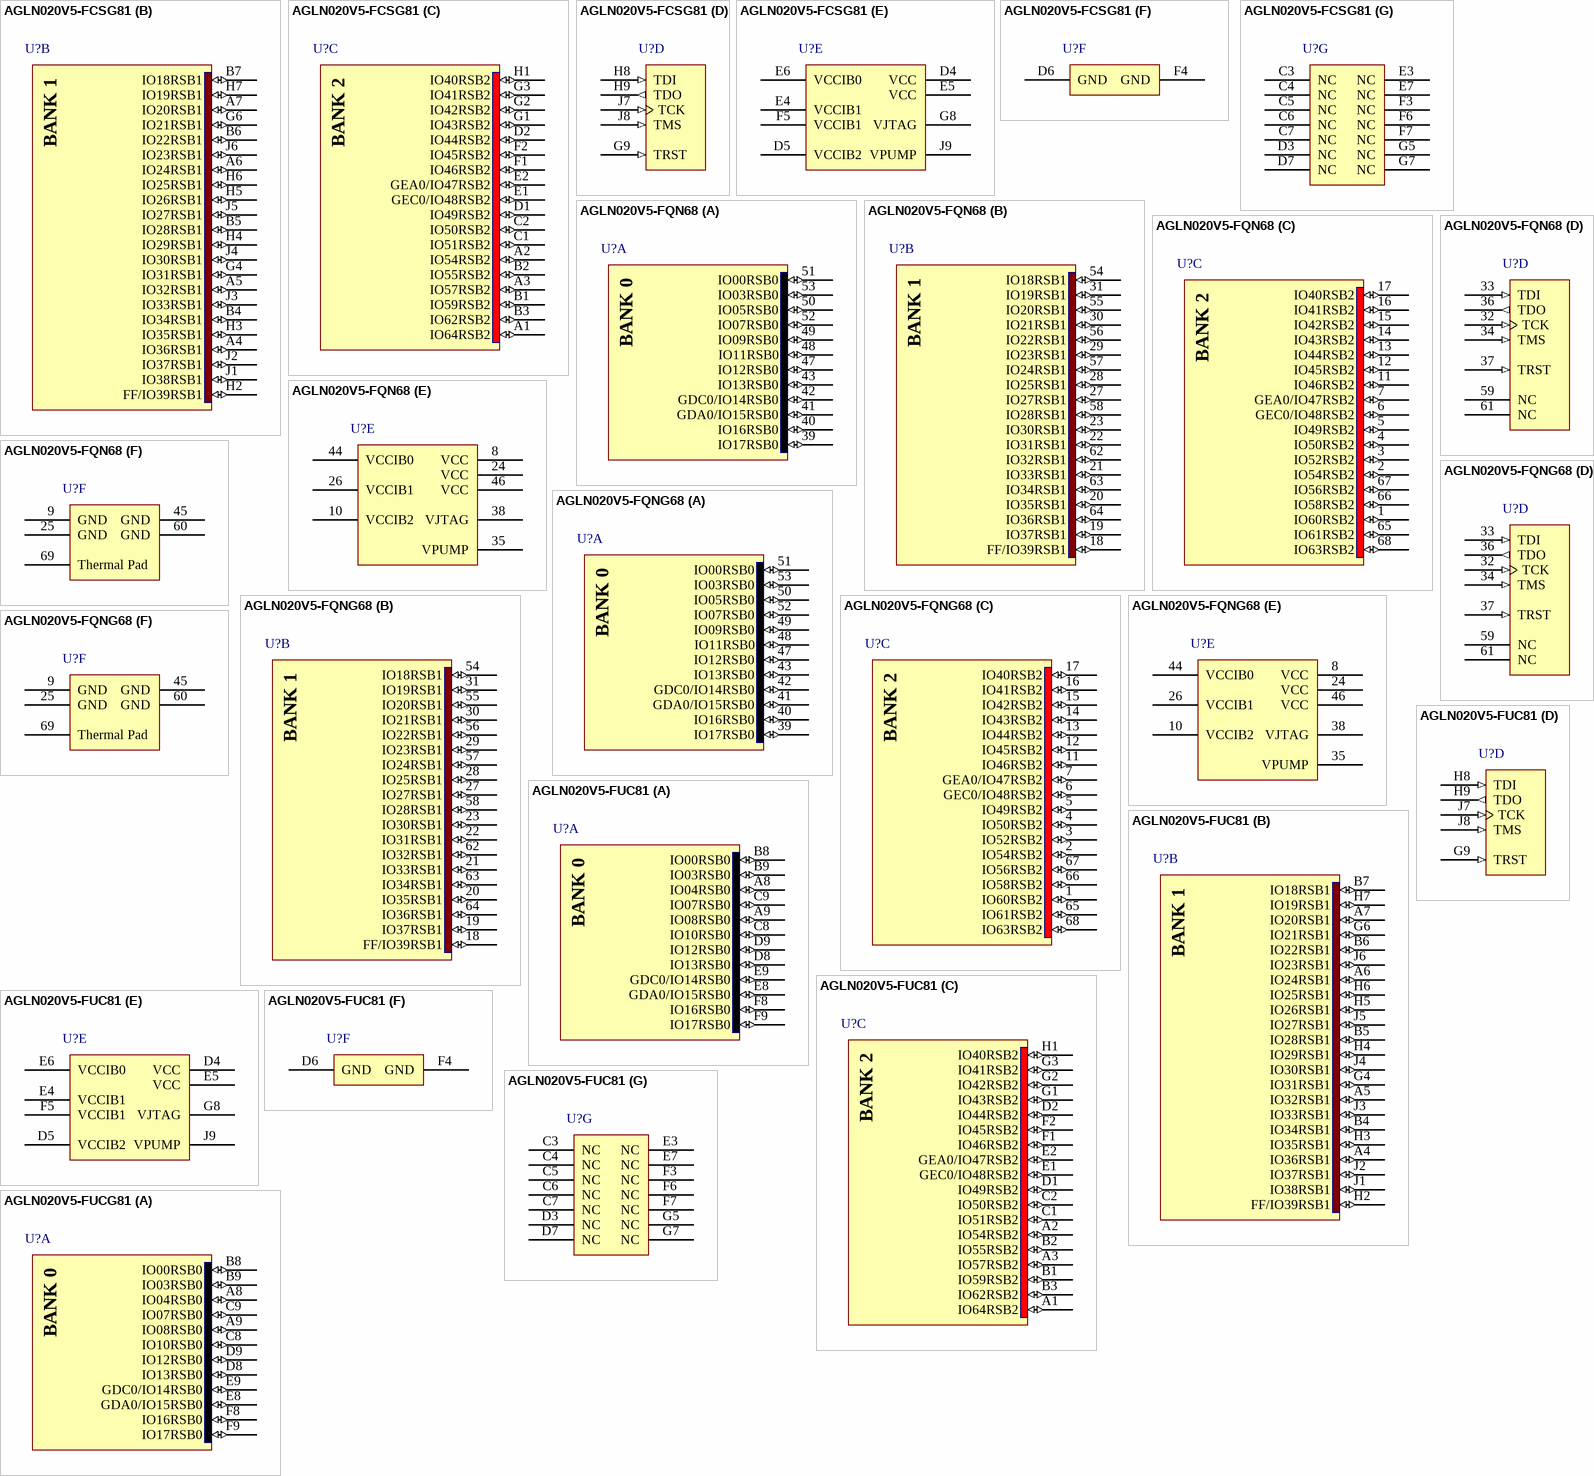
[diagram p12: symbols AGLN020V5-FCSG81 to AGLN020V5-FUCG81]

## AGLN020V5-FCSG81
designator U?
IGLOO nano Low-Power Flash 1.5V FPGA with Flash*Freeze, 52 User IOs, 20K System Gates, 1Kbit Flash ROM, 81-Pin CSP, F Speed Grade, Commercial Grade, Pb-Free; ComponentAvailability: F speed grade removed in ver0.7, Apr-2009 datasheet.; Published: 29-May-2009; DatasheetVersion: v0.6, Feb-2009; PackageVersion: ver11.2, Nov-2009; PackageReference: CS81; Publisher: Altium Limited; PackageDescription: 81-Ball Chip Scale Ball Grid Array 0.5 mm Pitch (CS81); Code_JEDEC: MO-195-AB; ComponentLink1Description: IGLOO nano Datasheet; ComponentLink1URL: http://www.actel.com/documents/IGLOO_nano_DS.pdf; ComponentLink2Description: Package Mechanical Drawings; ComponentLink2URL: http://www.actel.com/documents/PckgMechDrwngs.pdf; ComponentLink3Description: IGLOO nano Documents; ComponentLink3URL: http://www.actel.com/products/igloonano/docs.aspx; ComponentLink4Description: Actel.com Home; ComponentLink4URL: http://www.actel.com/
footprint CS81 (BGA, 81-Leads, Body 5x5mm, Pitch 0.5mm)
signal-integrity model AGLN020-CS81 (IGLOO nano)
part A pins: A8 IO04RSB0 (io), A9 IO08RSB0 (io), B8 IO00RSB0 (io), B9 IO03RSB0 (io), C8 IO10RSB0 (io), C9 IO07RSB0 (io), D8 IO13RSB0 (io), D9 IO12RSB0 (io), E8 GDA0/IO15RSB0 (io), E9 GDC0/IO14RSB0 (io), F8 IO16RSB0 (io), F9 IO17RSB0 (io)
part B pins: A4 IO36RSB1 (io), A5 IO32RSB1 (io), A6 IO24RSB1 (io), A7 IO20RSB1 (io), B4 IO34RSB1 (io), B5 IO28RSB1 (io), B6 IO22RSB1 (io), B7 IO18RSB1 (io), G4 IO31RSB1 (io), G6 IO21RSB1 (io), H2 FF/IO39RSB1 (io), H3 IO35RSB1 (io), H4 IO29RSB1 (io), H5 IO26RSB1 (io), H6 IO25RSB1 (io), H7 IO19RSB1 (io), J1 IO38RSB1 (io), J2 IO37RSB1 (io), J3 IO33RSB1 (io), J4 IO30RSB1 (io), J5 IO27RSB1 (io), J6 IO23RSB1 (io)
part C pins: A1 IO64RSB2 (io), A2 IO54RSB2 (io), A3 IO57RSB2 (io), B1 IO59RSB2 (io), B2 IO55RSB2 (io), B3 IO62RSB2 (io), C1 IO51RSB2 (io), C2 IO50RSB2 (io), D1 IO49RSB2 (io), D2 IO44RSB2 (io), E1 GEC0/IO48RSB2 (io), E2 GEA0/IO47RSB2 (io), F1 IO46RSB2 (io), F2 IO45RSB2 (io), G1 IO43RSB2 (io), G2 IO42RSB2 (io), G3 IO41RSB2 (io), H1 IO40RSB2 (io)
part D pins: G9 TRST (in), H8 TDI (in), H9 TDO (out), J7 TCK (in), J8 TMS (in)
part E pins: D4 VCC (power), D5 VCCIB2 (power), E4 VCCIB1 (power), E5 VCC (power), E6 VCCIB0 (power), F5 VCCIB1 (power), G8 VJTAG (power), J9 VPUMP (power)
part F pins: D6 GND (power), F4 GND (power)
part G pins: C3 NC, C4 NC, C5 NC, C6 NC, C7 NC, D3 NC, D7 NC, E3 NC, E7 NC, F3 NC, F6 NC, F7 NC, G5 NC, G7 NC
part A text: BANK 0
part B text: BANK 1
part C text: BANK 2

## AGLN020V5-FQN68
designator U?
IGLOO nano Low-Power Flash 1.5V FPGA with Flash*Freeze, 49 User IOs, 20K System Gates, 1Kbit Flash ROM, 68-Pin QFN, F Speed Grade, Commercial Grade; ComponentAvailability: F speed grade removed in ver0.7, Apr-2009 datasheet.; Published: 29-May-2009; DatasheetVersion: v0.6, Feb-2009; PackageVersion: ver11.2, Nov-2009; PackageReference: QN68; Publisher: Altium Limited; PackageDescription: 68-Pin Quad Flat No-Lead 0.4 mm Pitch (QN68); Code_JEDEC: MO-220-VLLE-1; ComponentLink1Description: IGLOO nano Datasheet; ComponentLink1URL: http://www.actel.com/documents/IGLOO_nano_DS.pdf; ComponentLink2Description: Package Mechanical Drawings; ComponentLink2URL: http://www.actel.com/documents/PckgMechDrwngs.pdf; ComponentLink3Description: IGLOO nano Documents; ComponentLink3URL: http://www.actel.com/products/igloonano/docs.aspx; ComponentLink4Description: Actel.com Home; ComponentLink4URL: http://www.actel.com/
footprint QN68_N (QFN, 68-Leads, Body 8x8 mm, Pitch 0.4mm, IPC Medium Density)
footprint QN68_L (QFN, 68-Leads, Body 8x8 mm, Pitch 0.4mm, IPC High Density)
footprint QN68_M (QFN, 68-Leads, Body 8x8 mm, Pitch 0.4mm, IPC Low Density)
signal-integrity model AGLN020-QN68 (IGLOO nano)
part A pins: 39 IO17RSB0 (io), 40 IO16RSB0 (io), 41 GDA0/IO15RSB0 (io), 42 GDC0/IO14RSB0 (io), 43 IO13RSB0 (io), 47 IO12RSB0 (io), 48 IO11RSB0 (io), 49 IO09RSB0 (io), 50 IO05RSB0 (io), 51 IO00RSB0 (io), 52 IO07RSB0 (io), 53 IO03RSB0 (io)
part B pins: 18 FF/IO39RSB1 (io), 19 IO37RSB1 (io), 20 IO35RSB1 (io), 21 IO33RSB1 (io), 22 IO31RSB1 (io), 23 IO30RSB1 (io), 27 IO27RSB1 (io), 28 IO25RSB1 (io), 29 IO23RSB1 (io), 30 IO21RSB1 (io), 31 IO19RSB1 (io), 54 IO18RSB1 (io), 55 IO20RSB1 (io), 56 IO22RSB1 (io), 57 IO24RSB1 (io), 58 IO28RSB1 (io), 62 IO32RSB1 (io), 63 IO34RSB1 (io), 64 IO36RSB1 (io)
part C pins: 1 IO60RSB2 (io), 2 IO54RSB2 (io), 3 IO52RSB2 (io), 4 IO50RSB2 (io), 5 IO49RSB2 (io), 6 GEC0/IO48RSB2 (io), 7 GEA0/IO47RSB2 (io), 11 IO46RSB2 (io), 12 IO45RSB2 (io), 13 IO44RSB2 (io), 14 IO43RSB2 (io), 15 IO42RSB2 (io), 16 IO41RSB2 (io), 17 IO40RSB2 (io), 65 IO61RSB2 (io), 66 IO58RSB2 (io), 67 IO56RSB2 (io), 68 IO63RSB2 (io)
part D pins: 32 TCK (in), 33 TDI (in), 34 TMS (in), 36 TDO (out), 37 TRST (in), 59 NC, 61 NC
part E pins: 8 VCC (power), 10 VCCIB2 (power), 24 VCC (power), 26 VCCIB1 (power), 35 VPUMP (power), 38 VJTAG (power), 44 VCCIB0 (power), 46 VCC (power)
part F pins: 9 GND (power), 25 GND (power), 45 GND (power), 60 GND (power), 69 Thermal Pad
part A text: BANK 0
part B text: BANK 1
part C text: BANK 2

## AGLN020V5-FQNG68
designator U?
IGLOO nano Low-Power Flash 1.5V FPGA with Flash*Freeze, 49 User IOs, 20K System Gates, 1Kbit Flash ROM, 68-Pin QFN, F Speed Grade, Commercial Grade, Pb-Free; ComponentAvailability: F speed grade removed in ver0.7, Apr-2009 datasheet.; Published: 29-May-2009; DatasheetVersion: v0.6, Feb-2009; PackageVersion: ver11.2, Nov-2009; PackageReference: QN68; Publisher: Altium Limited; PackageDescription: 68-Pin Quad Flat No-Lead 0.4 mm Pitch (QN68); Code_JEDEC: MO-220-VLLE-1; ComponentLink1Description: IGLOO nano Datasheet; ComponentLink1URL: http://www.actel.com/documents/IGLOO_nano_DS.pdf; ComponentLink2Description: Package Mechanical Drawings; ComponentLink2URL: http://www.actel.com/documents/PckgMechDrwngs.pdf; ComponentLink3Description: IGLOO nano Documents; ComponentLink3URL: http://www.actel.com/products/igloonano/docs.aspx; ComponentLink4Description: Actel.com Home; ComponentLink4URL: http://www.actel.com/
footprint QN68_N (QFN, 68-Leads, Body 8x8 mm, Pitch 0.4mm, IPC Medium Density)
footprint QN68_L (QFN, 68-Leads, Body 8x8 mm, Pitch 0.4mm, IPC High Density)
footprint QN68_M (QFN, 68-Leads, Body 8x8 mm, Pitch 0.4mm, IPC Low Density)
signal-integrity model AGLN020-QN68 (IGLOO nano)
part A pins: 39 IO17RSB0 (io), 40 IO16RSB0 (io), 41 GDA0/IO15RSB0 (io), 42 GDC0/IO14RSB0 (io), 43 IO13RSB0 (io), 47 IO12RSB0 (io), 48 IO11RSB0 (io), 49 IO09RSB0 (io), 50 IO05RSB0 (io), 51 IO00RSB0 (io), 52 IO07RSB0 (io), 53 IO03RSB0 (io)
part B pins: 18 FF/IO39RSB1 (io), 19 IO37RSB1 (io), 20 IO35RSB1 (io), 21 IO33RSB1 (io), 22 IO31RSB1 (io), 23 IO30RSB1 (io), 27 IO27RSB1 (io), 28 IO25RSB1 (io), 29 IO23RSB1 (io), 30 IO21RSB1 (io), 31 IO19RSB1 (io), 54 IO18RSB1 (io), 55 IO20RSB1 (io), 56 IO22RSB1 (io), 57 IO24RSB1 (io), 58 IO28RSB1 (io), 62 IO32RSB1 (io), 63 IO34RSB1 (io), 64 IO36RSB1 (io)
part C pins: 1 IO60RSB2 (io), 2 IO54RSB2 (io), 3 IO52RSB2 (io), 4 IO50RSB2 (io), 5 IO49RSB2 (io), 6 GEC0/IO48RSB2 (io), 7 GEA0/IO47RSB2 (io), 11 IO46RSB2 (io), 12 IO45RSB2 (io), 13 IO44RSB2 (io), 14 IO43RSB2 (io), 15 IO42RSB2 (io), 16 IO41RSB2 (io), 17 IO40RSB2 (io), 65 IO61RSB2 (io), 66 IO58RSB2 (io), 67 IO56RSB2 (io), 68 IO63RSB2 (io)
part D pins: 32 TCK (in), 33 TDI (in), 34 TMS (in), 36 TDO (out), 37 TRST (in), 59 NC, 61 NC
part E pins: 8 VCC (power), 10 VCCIB2 (power), 24 VCC (power), 26 VCCIB1 (power), 35 VPUMP (power), 38 VJTAG (power), 44 VCCIB0 (power), 46 VCC (power)
part F pins: 9 GND (power), 25 GND (power), 45 GND (power), 60 GND (power), 69 Thermal Pad
part A text: BANK 0
part B text: BANK 1
part C text: BANK 2

## AGLN020V5-FUC81
designator U?
IGLOO nano Low-Power Flash 1.5V FPGA with Flash*Freeze, 52 User IOs, 20K System Gates, 1Kbit Flash ROM, 81-Pin Micro CSP, F Speed Grade, Commercial Grade; ComponentAvailability: F speed grade removed in ver0.7, Apr-2009 datasheet.; Published: 29-May-2009; DatasheetVersion: v0.6, Feb-2009; PackageVersion: ver11.2, Nov-2009; PackageReference: uC81; Publisher: Altium Limited; PackageDescription: 81-Ball Chip Scale Ball Grid Array 0.4 mm Pitch (uC81); Code_JEDEC: MO-195-AB; ComponentLink1Description: IGLOO nano Datasheet; ComponentLink1URL: http://www.actel.com/documents/IGLOO_nano_DS.pdf; ComponentLink2Description: Package Mechanical Drawings; ComponentLink2URL: http://www.actel.com/documents/PckgMechDrwngs.pdf; ComponentLink3Description: IGLOO nano Documents; ComponentLink3URL: http://www.actel.com/products/igloonano/docs.aspx; ComponentLink4Description: Actel.com Home; ComponentLink4URL: http://www.actel.com/
footprint UC81 (BGA, 81-Leads, Body 4x4mm, Pitch 0.4mm)
signal-integrity model AGLN020-UC81 (IGLOO nano)
part A pins: A8 IO04RSB0 (io), A9 IO08RSB0 (io), B8 IO00RSB0 (io), B9 IO03RSB0 (io), C8 IO10RSB0 (io), C9 IO07RSB0 (io), D8 IO13RSB0 (io), D9 IO12RSB0 (io), E8 GDA0/IO15RSB0 (io), E9 GDC0/IO14RSB0 (io), F8 IO16RSB0 (io), F9 IO17RSB0 (io)
part B pins: A4 IO36RSB1 (io), A5 IO32RSB1 (io), A6 IO24RSB1 (io), A7 IO20RSB1 (io), B4 IO34RSB1 (io), B5 IO28RSB1 (io), B6 IO22RSB1 (io), B7 IO18RSB1 (io), G4 IO31RSB1 (io), G6 IO21RSB1 (io), H2 FF/IO39RSB1 (io), H3 IO35RSB1 (io), H4 IO29RSB1 (io), H5 IO26RSB1 (io), H6 IO25RSB1 (io), H7 IO19RSB1 (io), J1 IO38RSB1 (io), J2 IO37RSB1 (io), J3 IO33RSB1 (io), J4 IO30RSB1 (io), J5 IO27RSB1 (io), J6 IO23RSB1 (io)
part C pins: A1 IO64RSB2 (io), A2 IO54RSB2 (io), A3 IO57RSB2 (io), B1 IO59RSB2 (io), B2 IO55RSB2 (io), B3 IO62RSB2 (io), C1 IO51RSB2 (io), C2 IO50RSB2 (io), D1 IO49RSB2 (io), D2 IO44RSB2 (io), E1 GEC0/IO48RSB2 (io), E2 GEA0/IO47RSB2 (io), F1 IO46RSB2 (io), F2 IO45RSB2 (io), G1 IO43RSB2 (io), G2 IO42RSB2 (io), G3 IO41RSB2 (io), H1 IO40RSB2 (io)
part D pins: G9 TRST (in), H8 TDI (in), H9 TDO (out), J7 TCK (in), J8 TMS (in)
part E pins: D4 VCC (power), D5 VCCIB2 (power), E4 VCCIB1 (power), E5 VCC (power), E6 VCCIB0 (power), F5 VCCIB1 (power), G8 VJTAG (power), J9 VPUMP (power)
part F pins: D6 GND (power), F4 GND (power)
part G pins: C3 NC, C4 NC, C5 NC, C6 NC, C7 NC, D3 NC, D7 NC, E3 NC, E7 NC, F3 NC, F6 NC, F7 NC, G5 NC, G7 NC
part A text: BANK 0
part B text: BANK 1
part C text: BANK 2

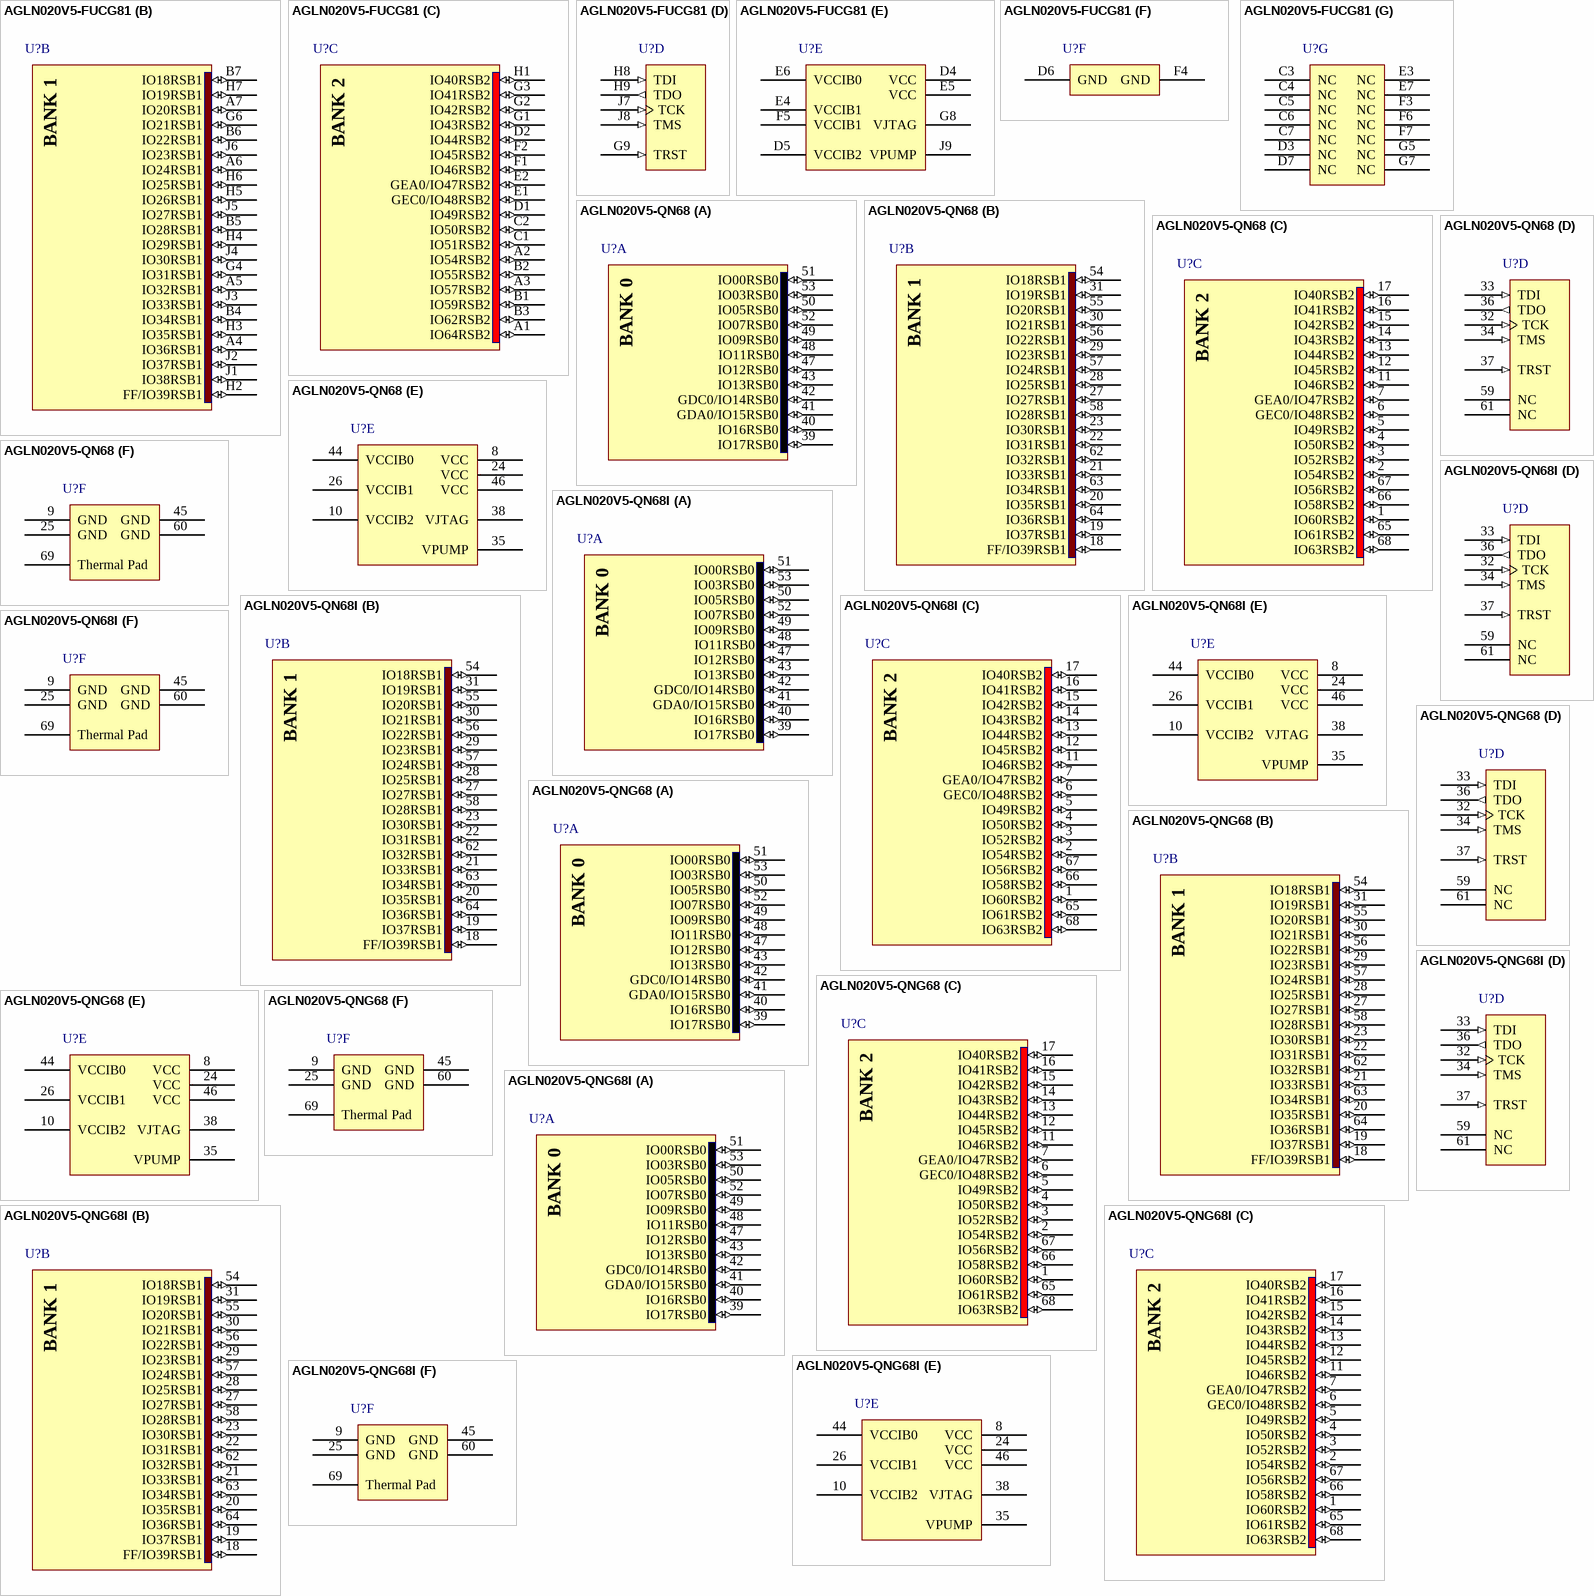
[diagram p13: symbols AGLN020V5-FUCG81 to AGLN020V5-QNG68I]

## AGLN020V5-FUCG81
designator U?
IGLOO nano Low-Power Flash 1.5V FPGA with Flash*Freeze, 52 User IOs, 20K System Gates, 1Kbit Flash ROM, 81-Pin Micro CSP, F Speed Grade, Commercial Grade, Pb-Free; ComponentAvailability: F speed grade removed in ver0.7, Apr-2009 datasheet.; Published: 29-May-2009; DatasheetVersion: v0.6, Feb-2009; PackageVersion: ver11.2, Nov-2009; PackageReference: uC81; Publisher: Altium Limited; PackageDescription: 81-Ball Chip Scale Ball Grid Array 0.4 mm Pitch (uC81); Code_JEDEC: MO-195-AB; ComponentLink1Description: IGLOO nano Datasheet; ComponentLink1URL: http://www.actel.com/documents/IGLOO_nano_DS.pdf; ComponentLink2Description: Package Mechanical Drawings; ComponentLink2URL: http://www.actel.com/documents/PckgMechDrwngs.pdf; ComponentLink3Description: IGLOO nano Documents; ComponentLink3URL: http://www.actel.com/products/igloonano/docs.aspx; ComponentLink4Description: Actel.com Home; ComponentLink4URL: http://www.actel.com/
footprint UC81 (BGA, 81-Leads, Body 4x4mm, Pitch 0.4mm)
signal-integrity model AGLN020-UC81 (IGLOO nano)
part A pins: A8 IO04RSB0 (io), A9 IO08RSB0 (io), B8 IO00RSB0 (io), B9 IO03RSB0 (io), C8 IO10RSB0 (io), C9 IO07RSB0 (io), D8 IO13RSB0 (io), D9 IO12RSB0 (io), E8 GDA0/IO15RSB0 (io), E9 GDC0/IO14RSB0 (io), F8 IO16RSB0 (io), F9 IO17RSB0 (io)
part B pins: A4 IO36RSB1 (io), A5 IO32RSB1 (io), A6 IO24RSB1 (io), A7 IO20RSB1 (io), B4 IO34RSB1 (io), B5 IO28RSB1 (io), B6 IO22RSB1 (io), B7 IO18RSB1 (io), G4 IO31RSB1 (io), G6 IO21RSB1 (io), H2 FF/IO39RSB1 (io), H3 IO35RSB1 (io), H4 IO29RSB1 (io), H5 IO26RSB1 (io), H6 IO25RSB1 (io), H7 IO19RSB1 (io), J1 IO38RSB1 (io), J2 IO37RSB1 (io), J3 IO33RSB1 (io), J4 IO30RSB1 (io), J5 IO27RSB1 (io), J6 IO23RSB1 (io)
part C pins: A1 IO64RSB2 (io), A2 IO54RSB2 (io), A3 IO57RSB2 (io), B1 IO59RSB2 (io), B2 IO55RSB2 (io), B3 IO62RSB2 (io), C1 IO51RSB2 (io), C2 IO50RSB2 (io), D1 IO49RSB2 (io), D2 IO44RSB2 (io), E1 GEC0/IO48RSB2 (io), E2 GEA0/IO47RSB2 (io), F1 IO46RSB2 (io), F2 IO45RSB2 (io), G1 IO43RSB2 (io), G2 IO42RSB2 (io), G3 IO41RSB2 (io), H1 IO40RSB2 (io)
part D pins: G9 TRST (in), H8 TDI (in), H9 TDO (out), J7 TCK (in), J8 TMS (in)
part E pins: D4 VCC (power), D5 VCCIB2 (power), E4 VCCIB1 (power), E5 VCC (power), E6 VCCIB0 (power), F5 VCCIB1 (power), G8 VJTAG (power), J9 VPUMP (power)
part F pins: D6 GND (power), F4 GND (power)
part G pins: C3 NC, C4 NC, C5 NC, C6 NC, C7 NC, D3 NC, D7 NC, E3 NC, E7 NC, F3 NC, F6 NC, F7 NC, G5 NC, G7 NC
part A text: BANK 0
part B text: BANK 1
part C text: BANK 2